# Altium schematic symbol library Library.SchLib: 119 symbols
Pins are listed as number, name and electrical type; pins without a type are passive.

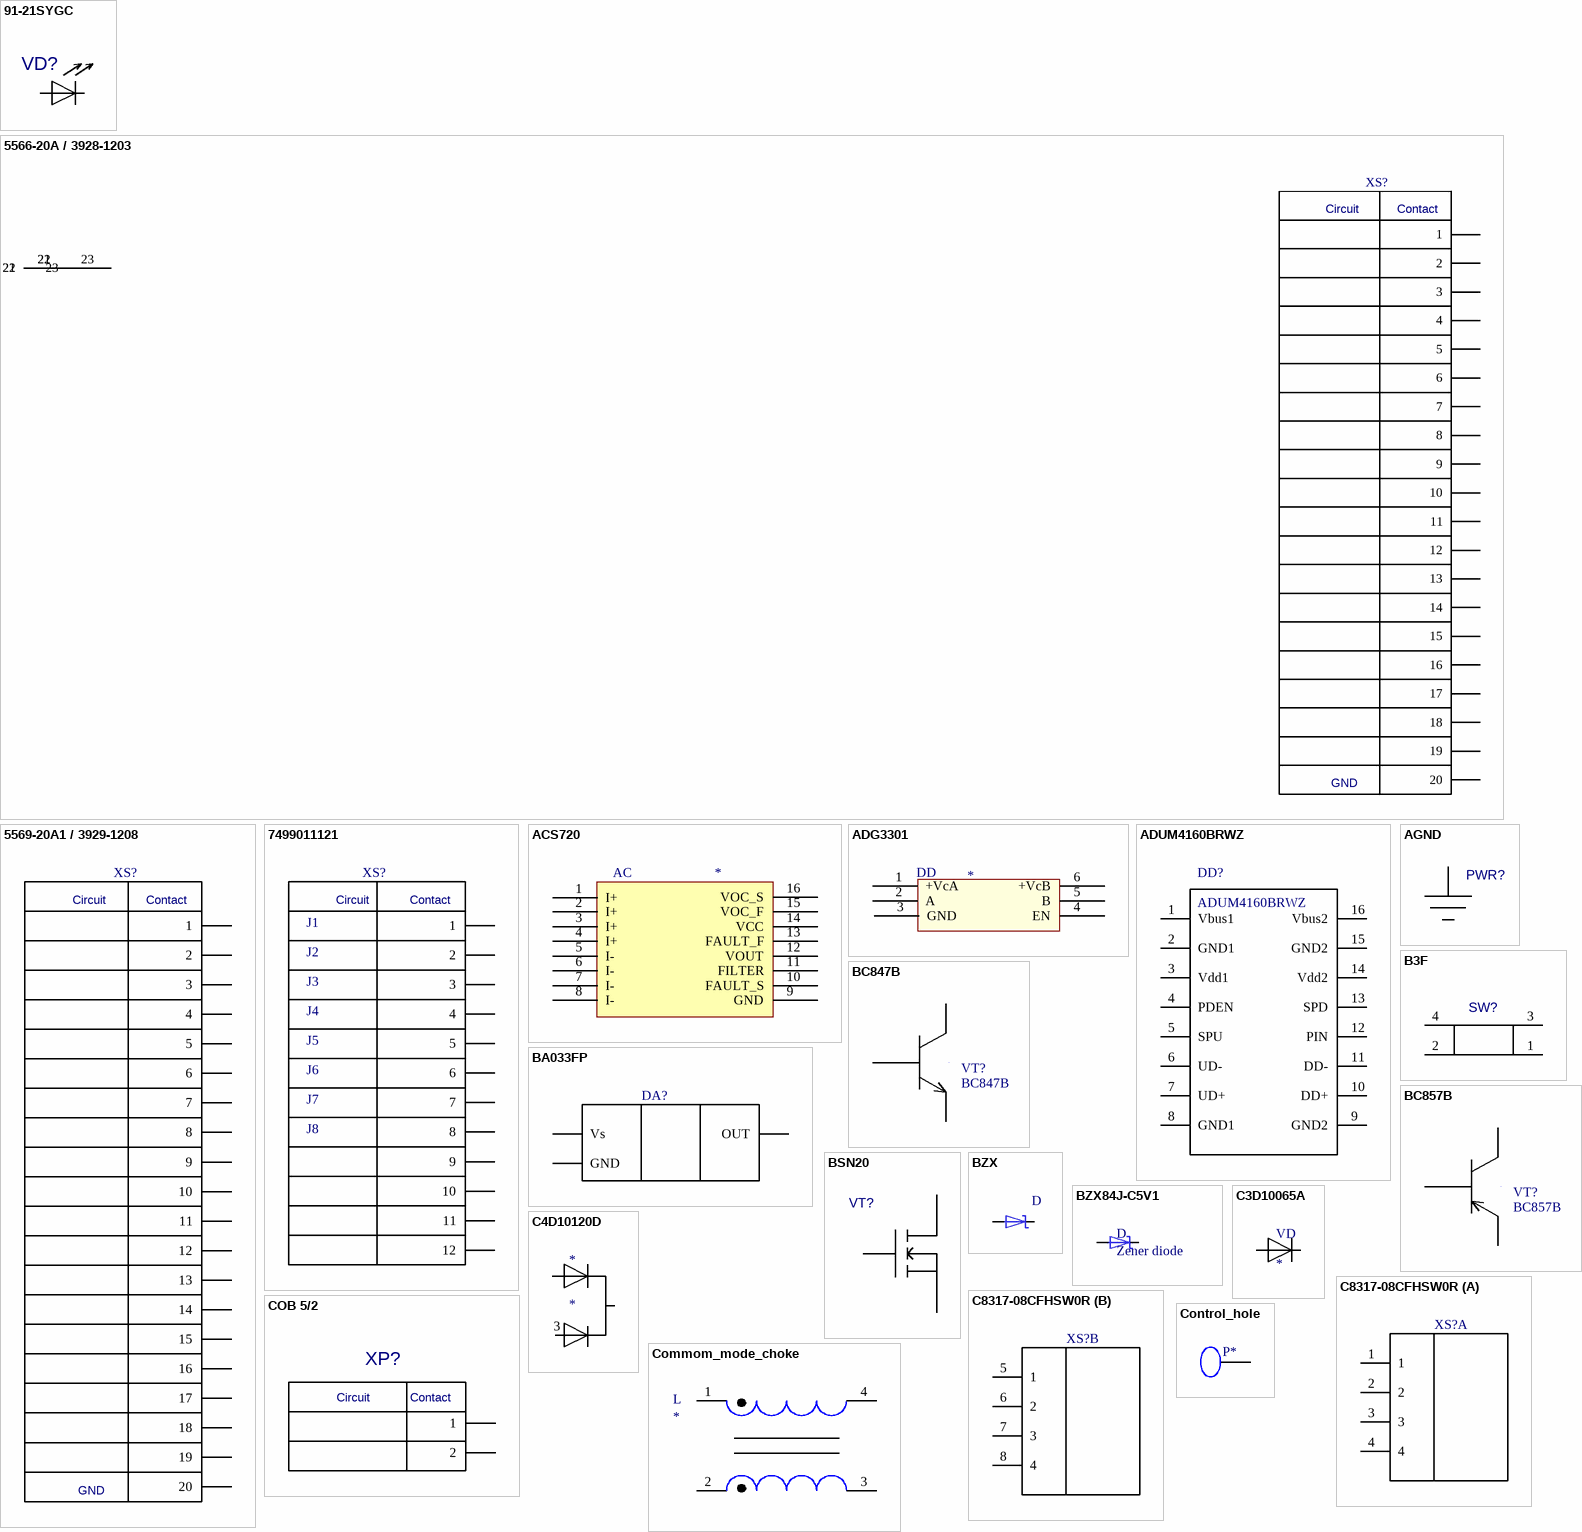
[diagram p0: symbols 91-21SYGC to Control_hole]

## 91-21SYGC
designator VD?  (value not drawn)
VD_SMD; Manufacture: Everlight Electronics; Value: LED green; Order code: 7525009; datasheet: https://www1.elfa.se/data1/wwwroot/assets/datasheets/07525009.pdf; Price: 0,15; Supplier: Elfa; Package: 0805; Publisher: *; Type: 91-21SYGC
footprint SMD_3MM
pins: 1, 2

## 5566-20A / 3928-1203
designator XS?  (value not drawn)
2x10P_ïðÿìîé; Manufacture: Harwin; Order code: 4391402; Supplier: Elfa; Price: 2,28; datasheet: https://www1.elfa.se/data1/wwwroot/assets/datasheets/04391400.pdf; Package: 10x1,27mm; Publisher: *; Value: *; Type: M50-3001045
footprint 2x10P_1.27
pins: 1, 2, 3, 4, 5, 6, 7, 8, 9, 10, 11, 12, 13, 14, 15, 16, 17, 18, 19, 20, 21, 22, 23
1 alternate drawing of the same symbol
text: Circuit; Contact; GND

## 5569-20A1 / 3929-1208
designator XS?  (value not drawn)
2x10P_óãëîâîé; Order code: 4402195; Supplier: Elfa; Price: 4,29; datasheet: https://www1.elfa.se/data1/wwwroot/assets/datasheets/04402170.pdf; Package: *; Publisher: *; Manufacture: *; Type: *; Value: *
footprint 2x10P yglovoj
pins: 1, 2, 3, 4, 5, 6, 7, 8, 9, 10, 11, 12, 13, 14, 15, 16, 17, 18, 19, 20
1 alternate drawing of the same symbol
text: Circuit; Contact; GND

## 7499011121
designator XS?  (value not drawn)
RJ45; Order code: 1636377; datasheet: http://katalog.we-online.de/pbs/datasheet/7499011121.pdf; Price: 7,87; Supplier: http://ee.farnell.com/wurth-elektronik/7499011121/connector-we-lan-integrated-rj/dp/1636377?Ntt=7499011121; Package: *; Publisher: *
footprint RJ45_2
pins: 1, 2, 3, 4, 5, 6, 7, 8, 9, 10, 11, 12
text: Circuit; Contact; J1; J2; J3; J4; J5; J6; J7; J8

## ACS720
designator AC
Value: 15A; Order code: 620-1876-1-ND; Supplier: Digi-key
footprint SOIC_W
pins: 1 I+, 2 I+, 3 I+, 4 I+, 5 I-, 6 I-, 7 I-, 8 I-, 9 GND, 10 FAULT_S, 11 FILTER, 12 VOUT, 13 FAULT_F, 14 VCC, 15 VOC_F, 16 VOC_S

## ADG3301
designator *, comment DD
pins: 1 +VcA, 2 A, 3 GND, 4 EN, 5 B, 6 +VcB

## ADUM4160BRWZ
designator DD?
Max Supply current: 8 mA; Supplier: http://www.analog.com/en/interface-isolation/digital-isolators/adum4160/products/product.html#product-samples-nav; Price: 4,53; datasheet: http://www.analog.com/static/imported-files/data_sheets/ADuM4160.pdf; Package: *; Publisher: *
footprint SOIC_W
pins: 1 Vbus1, 2 GND1, 3 Vdd1, 4 PDEN, 5 SPU, 6 UD-, 7 UD+, 8 GND1, 9 GND2, 10 DD+, 11 DD-, 12 PIN, 13 SPD, 14 Vdd2, 15 GND2, 16 Vbus2

## AGND
designator PWR?  (value not drawn)
Value: *
pins: 1 AGND (power)

## B3F
designator SW?, comment B3F-1000  (value not drawn)
BOTTON; Manufacture: Omron; Order code: 3559075; Value: *; datasheet: https://www1.elfa.se/data1/wwwroot/assets/datasheets/B3F_eng_datasheet.pdf; Price: 0,25; Supplier: Elfa; Package: *; Publisher: *; Type: B3F-1000
footprint B3F
pins: 1, 2, 3, 4

## BA033FP
designator DA?  (value not drawn)
conv5_3; Order code: 7330165; datasheet: https://www1.elfa.se/data1/wwwroot/assets/datasheets/hj645131-645135_dat_E.pdf; Price: 1,79; Supplier: https://www.elfa.se/elfa3~ee_ru/elfa/init.do?item=73-301-65&toc=19829&q=BA033FP++; Package: *; Publisher: *
footprint TO_252
pins: 1 Vs, 2 GND, 3 OUT

## BC847B
designator VT?
n-p-n; Order code: 7130131; datasheet: https://www1.elfa.se/data1/wwwroot/assets/datasheets/usBC846x-to-BC847x_e.pdf; Price: 0,091; Supplier: https://www.elfa.se/elfa3~ee_ru/elfa/init.do?item=71-301-31&toc=19104&q=BC847; Package: *; Publisher: *
footprint SOT23
pins: 1 B, 2 E (power), 3 C

## BC857B
designator VT?
p-n-p; Order code: 7130156; datasheet: https://www1.elfa.se/data1/wwwroot/assets/datasheets/vfBC856x-to-BC857x_e.pdf; Price: 0,112; Supplier: https://www.elfa.se/elfa3~ee_ru/elfa/init.do?item=71-301-56&toc=19104&q=BC+857; Package: *; Publisher: *
footprint SOT23
pins: 1 B, 2 E (power), 3 C

## BSN20
designator VT?  (value not drawn)
TR_SOT23; Manufacture: NXP; Value: 50V, 173mA; Order code: 7131733; datasheet: https://www1.elfa.se/data1/wwwroot/assets/datasheets/cd610530_e.pdf; Price: 0,24; Supplier: Elfa; Package: SOT-23; Publisher: *; Type: BSN20
footprint SOT23
pins: 1 G, 2 S, 3 D

## BZX
designator D  (value not drawn)
Manufacturer: NXP; Value: 18V; Order code: 70-187-40; Type: Zener Diod; Supplier: Elfa; Price: 0,13; Package: SOD-323F
footprint SOD323F
pins: 1, 2

## BZX84J-C5V1
designator D, comment Zener diode
Manufacturer: NXP; Value: 5.1V; Order code: 70-186-66; Type: BZX84J-C5V1; Package: sod323F; Supplier: Elfa; Price: 0.13
footprint SOD323F
pins: 1, 2

## C3D10065A
designator VD
Manufacturer: CREE; Value: 650V, 10A; Order code: 1864930; Type: Sic diode; Price: 5.77; Supplier: Farnell; Package: TO-220-2
footprint TO-220-2-mod
pins: 1, 2

## C4D10120D
designator *
Manufacturer: Cree; Value: 600V, 18A; Order code: 2361493; Package: TO-247-3; Price: 10,92; Publisher: *; Supplier: Farnell; Type: C4D10120D
footprint PG-TO-247-3
pins: 1, 2, 3

## C8317-08CFHSW0R
designator XS?, comment USB  (value not drawn)
Order code: 4270906; Supplier: https://www.elfa.se/elfa3~ee_ru/elfa/init.do?item=42-709-06&toc=0&q=C8317-08CFHSW0R; datasheet: https://www1.elfa.se/data1/wwwroot/assets/datasheets/04270906.pdf; Price: 1,59; Package: *; Publisher: *
footprint USB_A_dual
part A pins: 1, 2, 3, 4
part B pins: 5 1, 6 2, 7 3, 8 4

## COB 5/2
designator XP?  (value not drawn)
XP_24V; Order code: 4837746; Value: *; datasheet: https://www1.elfa.se/data1/wwwroot/assets/datasheets/04837746.pdf; Price: 0,52; Supplier: https://www.elfa.se/elfa3~ee_ru/elfa/init.do?item=48-377-46&toc=19604&q=48-377-46; Package: *; Publisher: *
footprint XP2
pins: 1, 2
text: Circuit; Contact

## Commom_mode_choke
designator L
Manufacturer: Würth Elektronik; Value: 20 mH 0.5 A; Order code: 15857854; Type: Common mode choke; Supplier: Elfa; Package: Trough_hole; Price: 4,54
footprint Common_mode
pins: 1, 2, 3, 4

## Control_hole
designator P*  (value not drawn)
footprint Control_hole
pins: 1

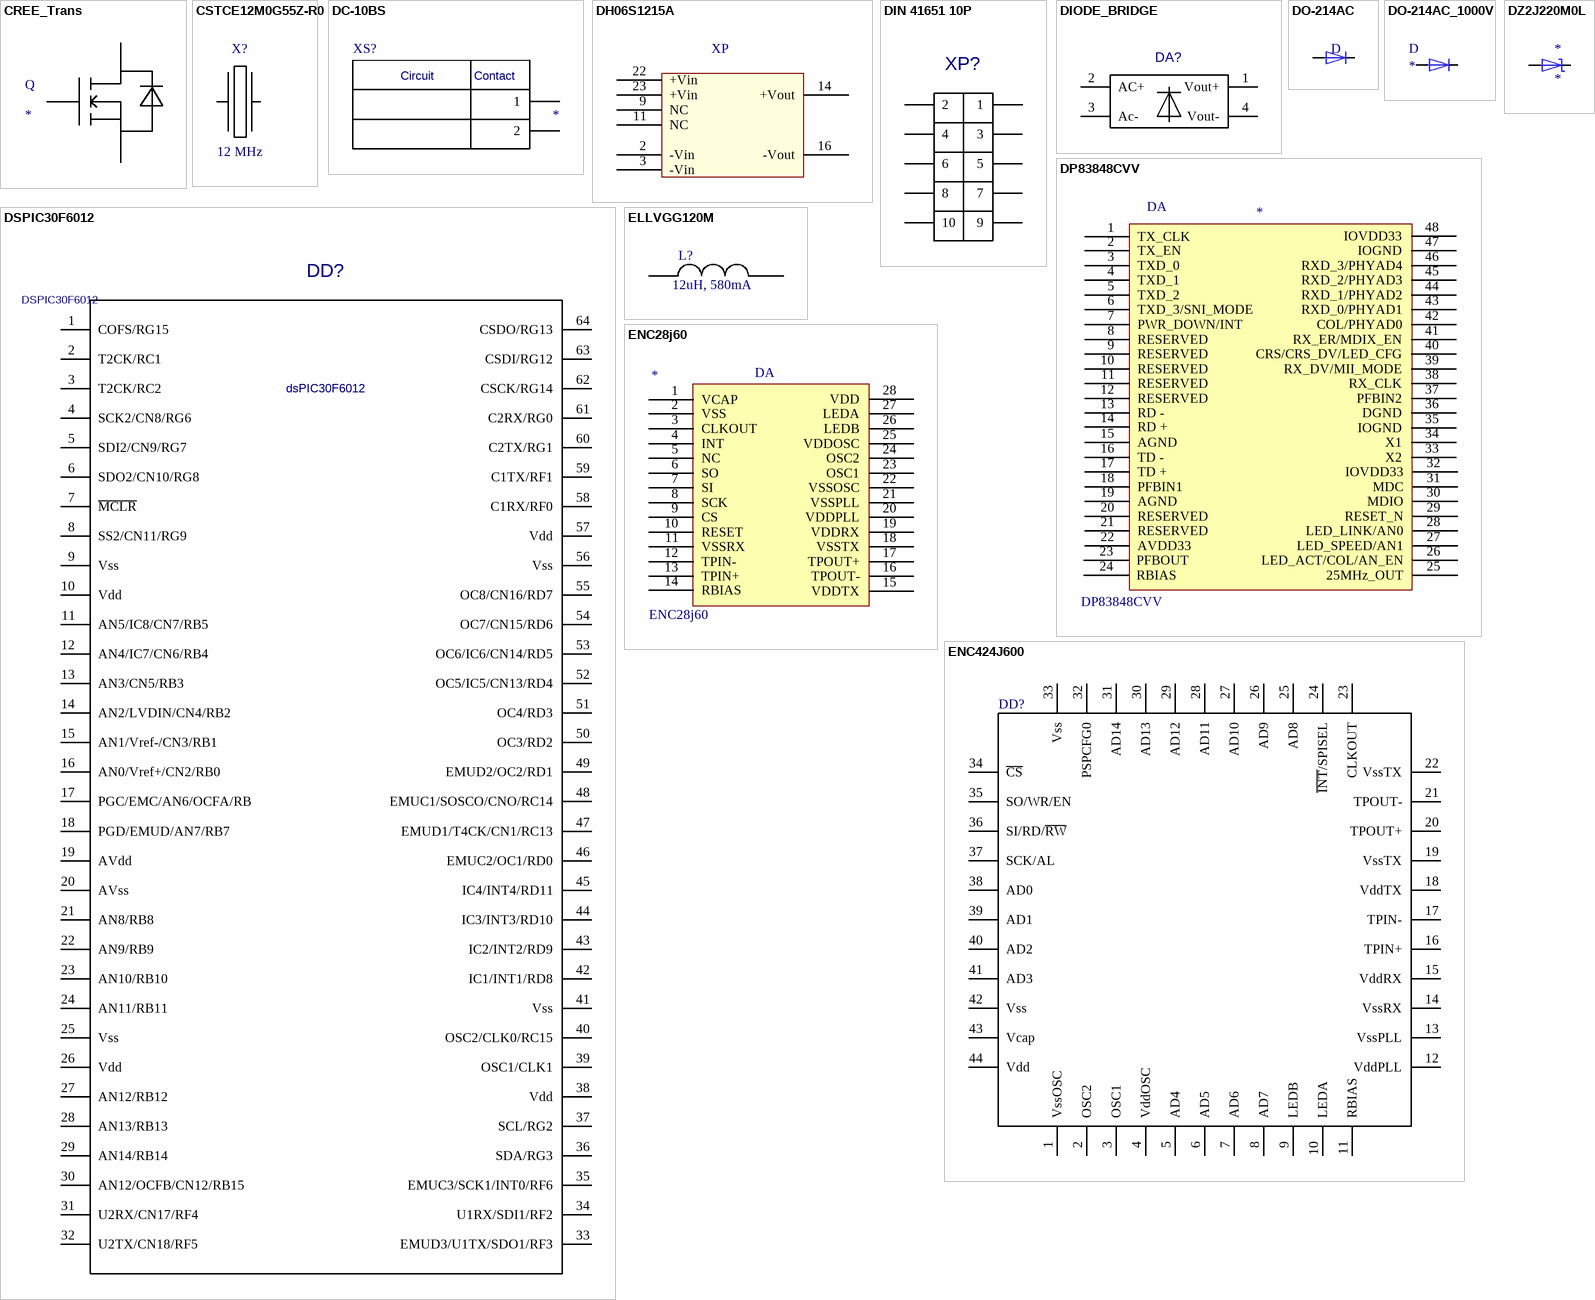
[diagram p1: symbols CREE_Trans to ENC424J600]

## CREE_Trans
designator Q
Value: 1200V, 31.6A, 80mOhm; Order code: 2361496; Type: SiC; Price: 15.6; Supplier: Farnel; Package: TO-247
footprint VT
pins: 1 G, 2 D, 3 S

## CSTCE12M0G55Z-R0
designator X?, comment 12 MHz
Manufacture: 74-623-32; Order code: 7462332; Value: 12MHz; datasheet: https://www1.elfa.se/data1/wwwroot/assets/datasheets/ceralock_eng_bro.pdf; Price: 1,74; Supplier: Elfa; Package: SMD; Publisher: *; Type: CSTCE12M0G55Z-R0
footprint CSTCE_G
pins: 1, 2

## DC-10BS
designator XS?
9-18V; Manufacture: Cliff; Order code: 4205876; Value: 12VDC, 2.5A; Supplier: Elfa; Price: 0,97; Package: 2.5mmX6.4mm; Publisher: *; Type: DC-10BS
footprint DC_10BS
pins: 1, 2
text: Circuit; Contact

## DH06S1215A
designator XP  (value not drawn)
Manufacturer: Delta-Europe; Value: 15V, 6W; Order code: 10-435-30; Type: DH06S1215A; Supplier: Elfa; Price: 16.7; Package: *
footprint DH06S
pins: 2 -Vin, 3 -Vin, 9 NC, 11 NC, 14 +Vout, 16 -Vout, 22 +Vin, 23 +Vin

## DIN 41651 10P
designator XP?  (value not drawn)
BLASTER_SLOT; Manufacture: Hsuan Mao; Order code: 4315503; Value: *; datasheet: https://www1.elfa.se/data1/wwwroot/assets/datasheets/04315503.pdf; Price: 0,52; Supplier: Elfa; Package: 10x2.54mm; Publisher: *; Type: C3510-10SPGB00R
footprint 2XP5
pins: 1, 2, 3, 4, 5, 6, 7, 8, 9, 10

## DIODE_BRIDGE
designator DA?  (value not drawn)
Value: *; Package: *; Price: *; Publisher: *; Supplier: *
footprint KBL_DIODE_BRIDGE
pins: 1 Vout+, 2 AC+, 3 Ac-, 4 Vout-

## DO-214AC
designator D, comment DO-214AC=SMA  (value not drawn)
Manufacturer: Diotec; Value: 100v, 1A; Order code: 70-008-44; Type: Fast diode; Price: 0,145; Supplier: Elfa; Package: DO-214
footprint DO-214AC (Molded Diode, 2-Leads, Body 4.5x2.7mm, IPC Medium Density)
pins: 1, 2

## DO-214AC_1000V
designator D
Manufacturer: Taiwan Semiconductor; Value: 1000V, 1A; Order code: 70-002-02; Type: DO-214AC; Price: 0.266; Package: smd; Supplier: Elfa
footprint DO-214AC (Molded Diode, 2-Leads, Body 4.5x2.7mm, IPC Medium Density)
pins: 1, 2

## DP83848CVV
designator DA  Type: DP83848CVV
Ethernet Phy Layer; Manufacture: Texas Instruments; Order code: 1286816; Package: LQFP-48; Price: 5.38; Publisher: *; Supplier: Farnell; Value: Ethernet Phy Layer
footprint LQFP-48
pins: 1 TX_CLK, 2 TX_EN, 3 TXD_0, 4 TXD_1, 5 TXD_2, 6 TXD_3/SNI_MODE, 7 PWR_DOWN/INT, 8 RESERVED, 9 RESERVED, 10 RESERVED, 11 RESERVED, 12 RESERVED, 13 RD -, 14 RD +, 15 AGND, 16 TD -, 17 TD +, 18 PFBIN1, 19 AGND, 20 RESERVED, 21 RESERVED, 22 AVDD33, 23 PFBOUT, 24 RBIAS, 25 25MHz_OUT, 26 LED_ACT/COL/AN_EN, 27 LED_SPEED/AN1, 28 LED_LINK/AN0, 29 RESET_N, 30 MDIO, 31 MDC, 32 IOVDD33, 33 X2, 34 X1, 35 IOGND, 36 DGND, 37 PFBIN2, 38 RX_CLK, 39 RX_DV/MII_MODE, 40 CRS/CRS_DV/LED_CFG, 41 RX_ER/MDIX_EN, 42 COL/PHYAD0, 43 RXD_0/PHYAD1, 44 RXD_1/PHYAD2, 45 RXD_2/PHYAD3, 46 RXD_3/PHYAD4, 47 IOGND, 48 IOVDD33

## DSPIC30F6012
designator DD?
Value: *; Package: *; Price: *; Publisher: *; Supplier: *
footprint TQFP64
pins: 1 COFS/RG15, 2 T2CK/RC1, 3 T2CK/RC2, 4 SCK2/CN8/RG6, 5 SDI2/CN9/RG7, 6 SDO2/CN10/RG8, 7 ~{MCLR}, 8 SS2/CN11/RG9, 9 Vss, 10 Vdd, 11 AN5/IC8/CN7/RB5, 12 AN4/IC7/CN6/RB4, 13 AN3/CN5/RB3, 14 AN2/LVDIN/CN4/RB2, 15 AN1/Vref-/CN3/RB1, 16 AN0/Vref+/CN2/RB0, 17 PGC/EMC/AN6/OCFA/RB, 18 PGD/EMUD/AN7/RB7, 19 AVdd, 20 AVss, 21 AN8/RB8, 22 AN9/RB9, 23 AN10/RB10, 24 AN11/RB11, 25 Vss, 26 Vdd, 27 AN12/RB12, 28 AN13/RB13, 29 AN14/RB14, 30 AN12/OCFB/CN12/RB15, 31 U2RX/CN17/RF4, 32 U2TX/CN18/RF5, 33 EMUD3/U1TX/SDO1/RF3, 34 U1RX/SDI1/RF2, 35 EMUC3/SCK1/INT0/RF6, 36 SDA/RG3, 37 SCL/RG2, 38 Vdd, 39 OSC1/CLK1, 40 OSC2/CLK0/RC15, 41 Vss, 42 IC1/INT1/RD8, 43 IC2/INT2/RD9, 44 IC3/INT3/RD10, 45 IC4/INT4/RD11, 46 EMUC2/OC1/RD0, 47 EMUD1/T4CK/CN1/RC13, 48 EMUC1/SOSCO/CNO/RC14, 49 EMUD2/OC2/RD1, 50 OC3/RD2, 51 OC4/RD3, 52 OC5/IC5/CN13/RD4, 53 OC6/IC6/CN14/RD5, 54 OC7/CN15/RD6, 55 OC8/CN16/RD7, 56 Vss, 57 Vdd, 58 C1RX/RF0, 59 C1TX/RF1, 60 C2TX/RG1, 61 C2RX/RG0, 62 CSCK/RG14, 63 CSDI/RG12, 64 CSDO/RG13
text: dsPIC30F6012

## DZ2J220M0L
designator *
Value: 22V, 200mW; Order code: 2285315; Type: Zener diode; Package: SOD323F; Supplier: Farnel; Price: 0.041
footprint SOD323F
pins: 1, 2

## ELLVGG120M
designator L?  value 12uH, 580mA  (hidden comment: *)
12uH; Manufacture: Panasonic; Order code: 5800668; Type: ELLVGG120M; Supplier: Elfa; datasheet: https://www1.elfa.se/data1/wwwroot/assets/datasheets/ELLV-series.pdfhttps://www1.elfa.se/data1/wwwroot/assets/datasheets/ELLV-series.pdf; Price: 0,36; Package: SMD 0806; Publisher: *
footprint L
pins: 1, 2

## ENC28j60
designator DA  Type: ENC28j60
Ethernet Controller; Manufacture: Microchip; Value: 10Mb Type; Order code: 1564401; Package: SOIC-28; Price: 3.25; Publisher: *; Supplier: Farnell
footprint SOIC_W28
pins: 1 VCAP, 2 VSS, 3 CLKOUT, 4 INT, 5 NC, 6 SO, 7 SI, 8 SCK, 9 CS, 10 RESET, 11 VSSRX, 12 TPIN-, 13 TPIN+, 14 RBIAS, 15 VDDTX, 16 TPOUT-, 17 TPOUT+, 18 VSSTX, 19 VDDRX, 20 VDDPLL, 21 VSSPLL, 22 VSSOSC, 23 OSC1, 24 OSC2, 25 VDDOSC, 26 LEDB, 27 LEDA, 28 VDD

## ENC424J600
designator DD?  (value not drawn)
Ethernet controller; Order code: 7387729; datasheet: https://www1.elfa.se/data1/wwwroot/assets/datasheets/ENC424J600_624J600_eng_tds.pdf; Price: 3,67; Supplier: https://www.elfa.se/elfa3~ee_ru/elfa/init.do?item=73-877-29&toc=20160&q=Ethernet+Controller; Package: *; Publisher: *
pins: 1 VssOSC, 2 OSC2, 3 OSC1, 4 VddOSC, 5 AD4, 6 AD5, 7 AD6, 8 AD7, 9 LEDB, 10 LEDA, 11 RBIAS, 12 VddPLL, 13 VssPLL, 14 VssRX, 15 VddRX, 16 TPIN+, 17 TPIN-, 18 VddTX, 19 VssTX, 20 TPOUT+, 21 TPOUT-, 22 VssTX, 23 CLKOUT, 24 ~{INT}/SPISEL, 25 AD8, 26 AD9, 27 AD10, 28 AD11, 29 AD12, 30 AD13, 31 AD14, 32 PSPCFG0, 33 Vss, 34 ~{CS}, 35 SO/WR/EN, 36 SI/RD/~{RW}, 37 SCK/AL, 38 AD0, 39 AD1, 40 AD2, 41 AD3, 42 Vss, 43 Vcap, 44 Vdd

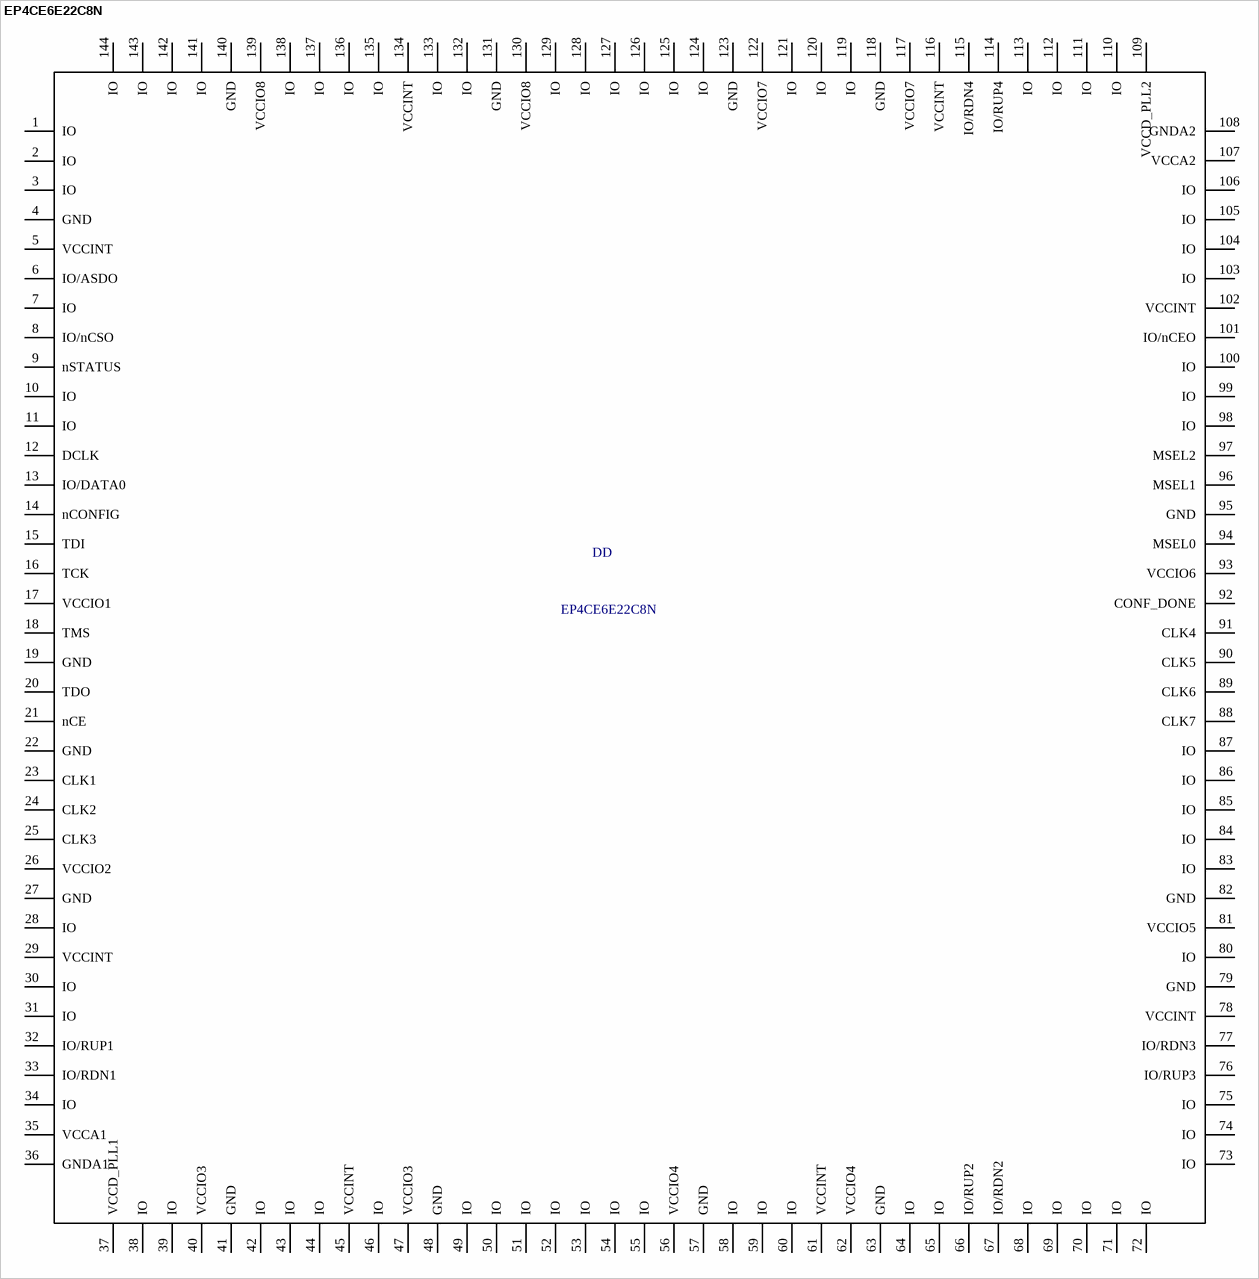
[diagram p2: symbol EP4CE6E22C8N]

## EP4CE6E22C8N
designator DD
Manufacturer: Altera; Order code: 2100851; Value: *; Type: EP4CE15E22C8N; Price: 17,04; Supplier: Farnel; Package: EQFP144
footprint EQFP-144
pins: 1 IO, 2 IO, 3 IO, 4 GND, 5 VCCINT, 6 IO/ASDO, 7 IO, 8 IO/nCSO, 9 nSTATUS, 10 IO, 11 IO, 12 DCLK, 13 IO/DATA0, 14 nCONFIG, 15 TDI, 16 TCK, 17 VCCIO1, 18 TMS, 19 GND, 20 TDO, 21 nCE, 22 GND, 23 CLK1, 24 CLK2, 25 CLK3, 26 VCCIO2, 27 GND, 28 IO, 29 VCCINT, 30 IO, 31 IO, 32 IO/RUP1, 33 IO/RDN1, 34 IO, 35 VCCA1, 36 GNDA1, 37 VCCD_PLL1, 38 IO, 39 IO, 40 VCCIO3, 41 GND, 42 IO, 43 IO, 44 IO, 45 VCCINT, 46 IO, 47 VCCIO3, 48 GND, 49 IO, 50 IO, 51 IO, 52 IO, 53 IO, 54 IO, 55 IO, 56 VCCIO4, 57 GND, 58 IO, 59 IO, 60 IO, 61 VCCINT, 62 VCCIO4, 63 GND, 64 IO, 65 IO, 66 IO/RUP2, 67 IO/RDN2, 68 IO, 69 IO, 70 IO, 71 IO, 72 IO, 73 IO, 74 IO, 75 IO, 76 IO/RUP3, 77 IO/RDN3, 78 VCCINT, 79 GND, 80 IO, 81 VCCIO5, 82 GND, 83 IO, 84 IO, 85 IO, 86 IO, 87 IO, 88 CLK7, 89 CLK6, 90 CLK5, 91 CLK4, 92 CONF_DONE, 93 VCCIO6, 94 MSEL0, 95 GND, 96 MSEL1, 97 MSEL2, 98 IO, 99 IO, 100 IO, 101 IO/nCEO, 102 VCCINT, 103 IO, 104 IO, 105 IO, 106 IO, 107 VCCA2, 108 GNDA2, 109 VCCD_PLL2, 110 IO, 111 IO, 112 IO, 113 IO, 114 IO/RUP4, 115 IO/RDN4, 116 VCCINT, 117 VCCIO7, 118 GND, 119 IO, 120 IO, 121 IO, 122 VCCIO7, 123 GND, 124 IO, 125 IO, 126 IO, 127 IO, 128 IO, 129 IO, 130 VCCIO8, 131 GND, 132 IO, 133 IO, 134 VCCINT, 135 IO, 136 IO, 137 IO, 138 IO, 139 VCCIO8, 140 GND, 141 IO, 142 IO, 143 IO, 144 IO

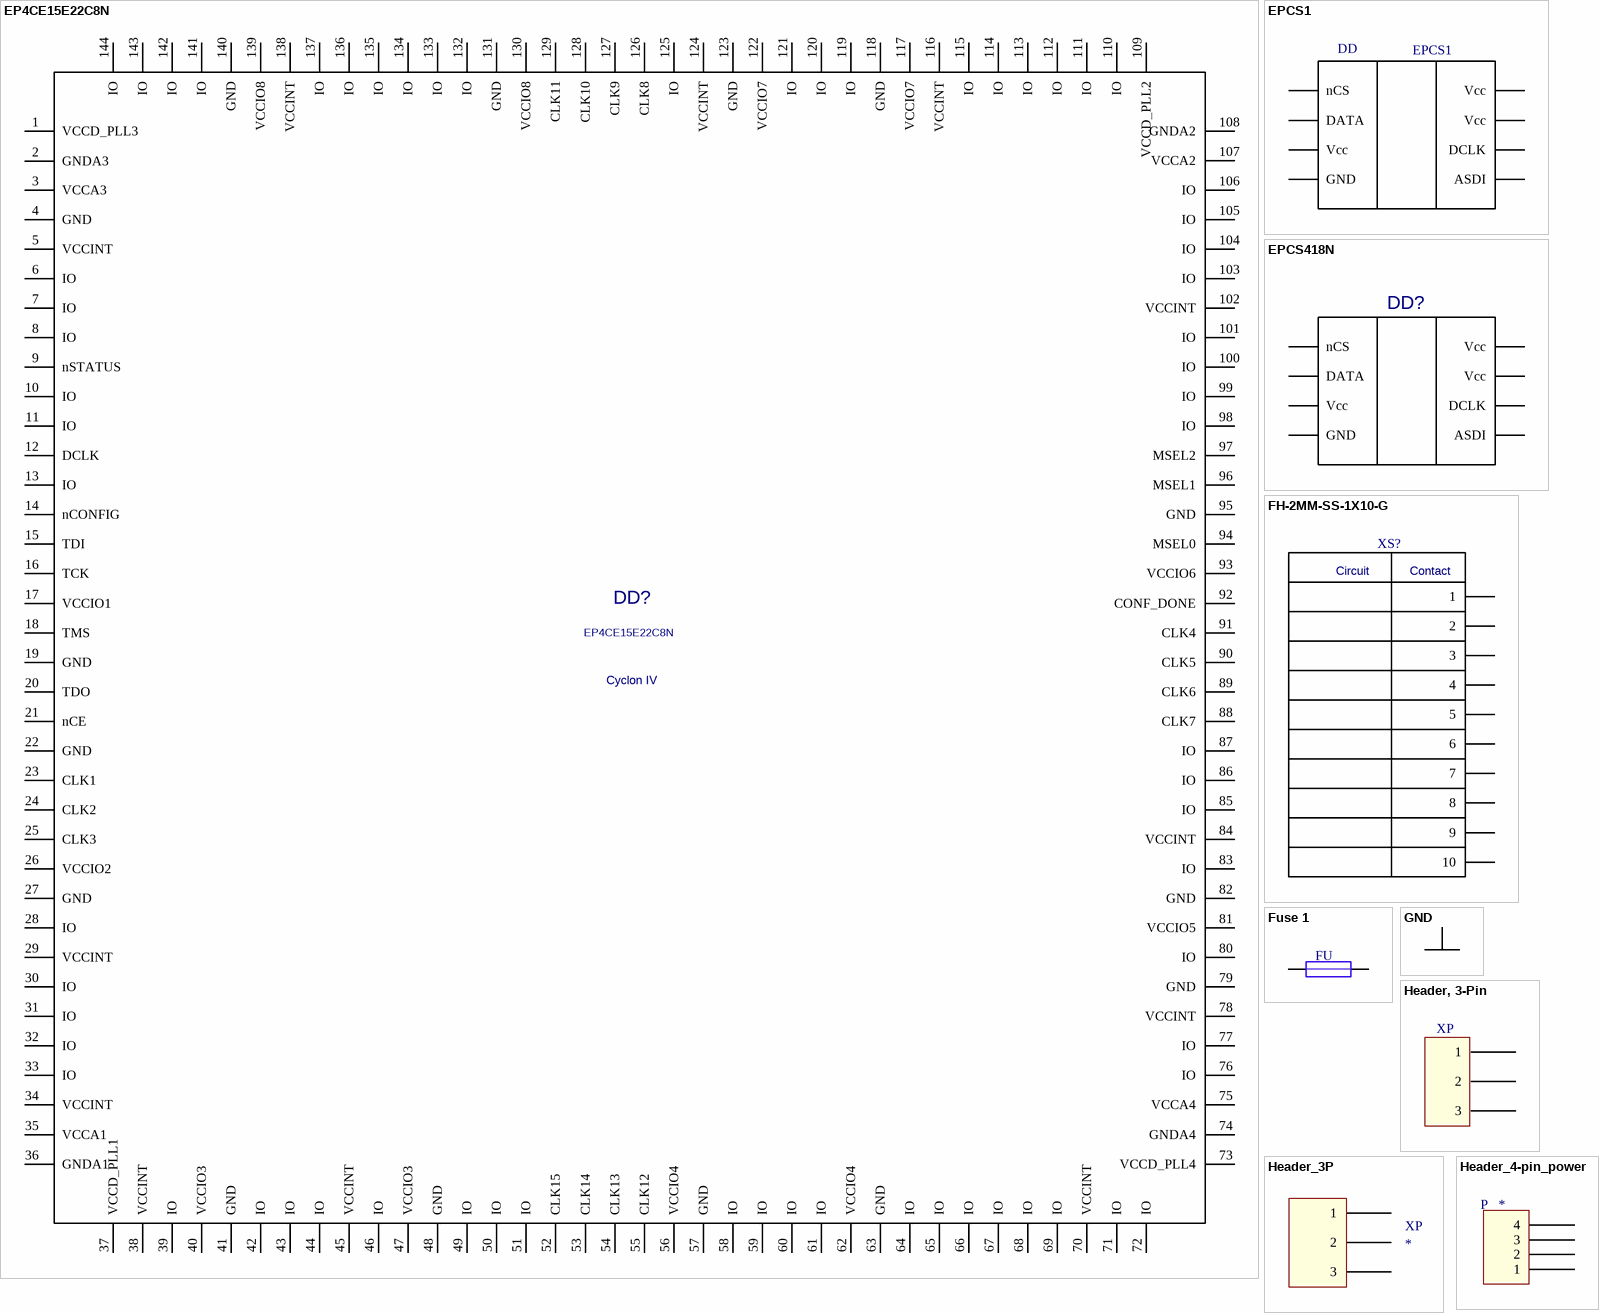
[diagram p3: symbols EP4CE15E22C8N to Header_4-pin_power]

## EP4CE15E22C8N
designator DD?
Cyclon4; Manufacture: Altera; Order code: 2100828; Value: *; datasheet: http://www.altera.com/literature/hb/cyclone-iv/cyiv-51001.pdf; Price: 31,82; Supplier: Farnell; Package: EQFP144; Publisher: *; Type: EP4CE15E22C8N
footprint EQFP-144
pins: 1 VCCD_PLL3, 2 GNDA3, 3 VCCA3, 4 GND, 5 VCCINT, 6 IO, 7 IO, 8 IO, 9 nSTATUS, 10 IO, 11 IO, 12 DCLK, 13 IO, 14 nCONFIG, 15 TDI, 16 TCK, 17 VCCIO1, 18 TMS, 19 GND, 20 TDO, 21 nCE, 22 GND, 23 CLK1, 24 CLK2, 25 CLK3, 26 VCCIO2, 27 GND, 28 IO, 29 VCCINT, 30 IO, 31 IO, 32 IO, 33 IO, 34 VCCINT, 35 VCCA1, 36 GNDA1, 37 VCCD_PLL1, 38 VCCINT, 39 IO, 40 VCCIO3, 41 GND, 42 IO, 43 IO, 44 IO, 45 VCCINT, 46 IO, 47 VCCIO3, 48 GND, 49 IO, 50 IO, 51 IO, 52 CLK15, 53 CLK14, 54 CLK13, 55 CLK12, 56 VCCIO4, 57 GND, 58 IO, 59 IO, 60 IO, 61 IO, 62 VCCIO4, 63 GND, 64 IO, 65 IO, 66 IO, 67 IO, 68 IO, 69 IO, 70 VCCINT, 71 IO, 72 IO, 73 VCCD_PLL4, 74 GNDA4, 75 VCCA4, 76 IO, 77 IO, 78 VCCINT, 79 GND, 80 IO, 81 VCCIO5, 82 GND, 83 IO, 84 VCCINT, 85 IO, 86 IO, 87 IO, 88 CLK7, 89 CLK6, 90 CLK5, 91 CLK4, 92 CONF_DONE, 93 VCCIO6, 94 MSEL0, 95 GND, 96 MSEL1, 97 MSEL2, 98 IO, 99 IO, 100 IO, 101 IO, 102 VCCINT, 103 IO, 104 IO, 105 IO, 106 IO, 107 VCCA2, 108 GNDA2, 109 VCCD_PLL2, 110 IO, 111 IO, 112 IO, 113 IO, 114 IO, 115 IO, 116 VCCINT, 117 VCCIO7, 118 GND, 119 IO, 120 IO, 121 IO, 122 VCCIO7, 123 GND, 124 VCCINT, 125 IO, 126 CLK8, 127 CLK9, 128 CLK10, 129 CLK11, 130 VCCIO8, 131 GND, 132 IO, 133 IO, 134 IO, 135 IO, 136 IO, 137 IO, 138 VCCINT, 139 VCCIO8, 140 GND, 141 IO, 142 IO, 143 IO, 144 IO
text: Cyclon IV

## EPCS1
designator DD
Manufacture: Altera; Value: 1Mb; Order code: 1453504; Type: EPCS1SI8N; Supplier: Farnel; Package: SOIC8; Price: 4,46
footprint SOIC_8
pins: 1 nCS, 2 DATA, 3 Vcc, 4 GND, 5 ASDI, 6 DCLK, 7 Vcc, 8 Vcc

## EPCS418N
designator DD?  (value not drawn)
Manufacture: Altera; Max Supply current: 50 uA; Order code: 1453496; Value: *; datasheet: http://www.altera.com/literature/hb/cfg/cyc_c51014.pdf; Price: 15,85; Supplier: Farnell; Package: SOIC-8; Publisher: *; Type: EPCS418N
footprint SOIC_8
pins: 1 nCS, 2 DATA, 3 Vcc, 4 GND, 5 ASDI, 6 DCLK, 7 Vcc, 8 Vcc

## FH-2MM-SS-1X10-G
designator XS?  (value not drawn)
1x10P; Order code: 4380655; Price: 2,93; Supplier: https://www.elfa.se/elfa3~ee_ru/elfa/init.do?item=43-806-55&toc=19754&q=1x10p; datasheet: https://www1.elfa.se/data1/wwwroot/assets/datasheets/04380606.pdf; Package: *; Publisher: *
footprint 1x10P
pins: 1, 2, 3, 4, 5, 6, 7, 8, 9, 10
text: Circuit; Contact

## Fuse 1
designator FU  (value not drawn)
Manufacturer: Schurter; Value: Fuse 5x20; Order code: 33-173-75, 33-160-31, 33-161-63; Type: 16A; Price: 0,48; 0,54; 0,45; Supplier: Elfa; Package: Fuse 5x20
footprint Fuse5x20mm
pins: 1, 2

## GND
designator PWR?  (value not drawn)
GND; Value: *

## Header, 3-Pin
designator XP  (value not drawn)
Manufacturer: TE Connectivity; Order code: 43-791-86; Type: Header 3-Pin; Value: *; Package: 3x2.54; Supplier: Elfa; Price: 0,52
footprint 3_HOLES
pins: 1, 2, 3

## Header_3P
designator XP
Manufacturer: Altium Limited; Value: PCB Terminal Block 3P7.62 mm; Order code: 48-397-10; Type: MB322-762M03; Price: *; Supplier: Elfa; Package: *
footprint Header_3P
pins: 1, 2, 3

## Header_4-pin_power
designator P
Manufacturer: Phoenix Contact; Order code: 48-455-17, 48-455-58; Type: PC 4/ 4-ST-7,62; Value: *; Price: 4,27+6,28; Package: 4-ST-7,62; Supplier: Elfa
footprint PC 4/ 2-G-7,62 (2pin pistik plaadile)
pins: 1, 2, 3, 4

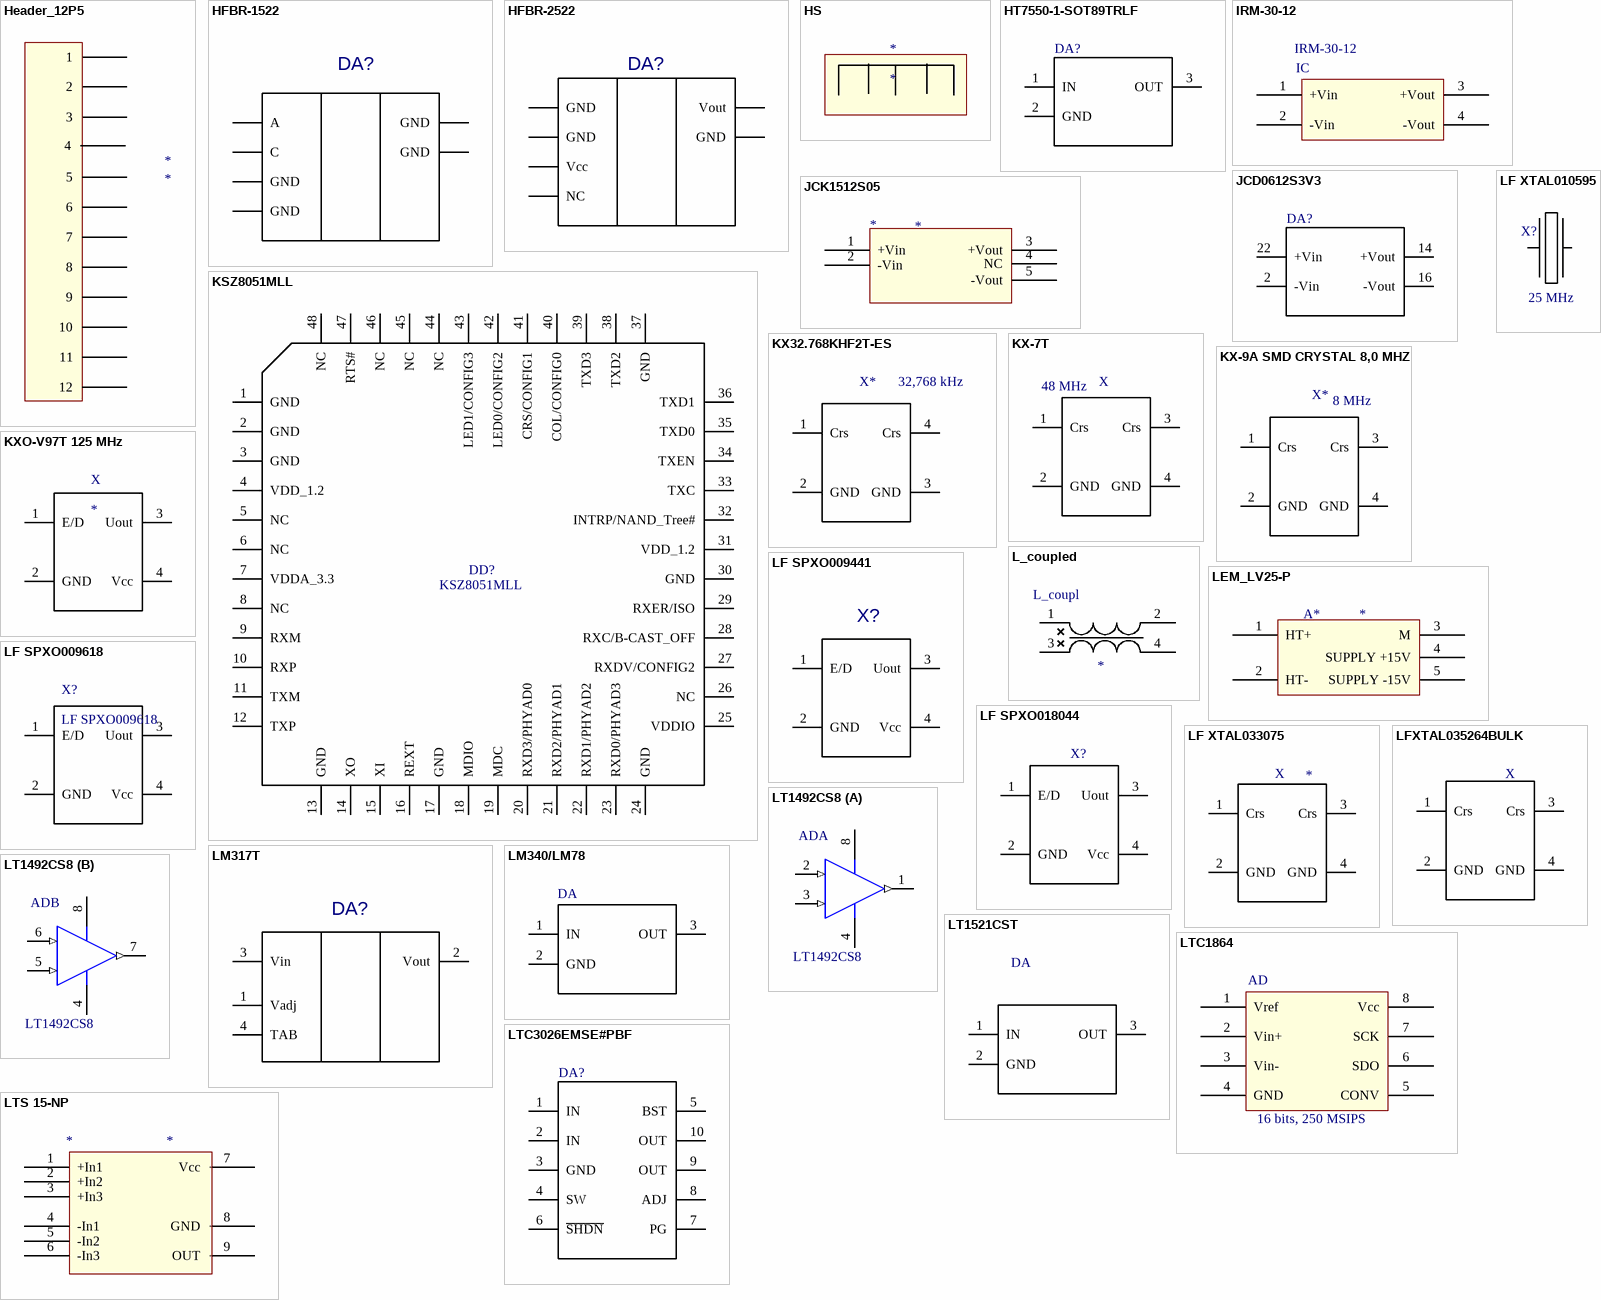
[diagram p4: symbols Header_12P5 to LTS 15-NP]

## Header_12P5
designator *
Manufacturer: Wago; Value: 400 VAC/DC; Order code: 48-409-77; Price: 3,65; Supplier: Elfa; Type: Terminal Block 12P5 mm; Package: 12P5
footprint Header_12P5
pins: 1, 2, 3, 4, 5, 6, 7, 8, 9, 10, 11, 12

## HFBR-1522
designator DA?  (value not drawn)
OPT_TRN; Manufacture: Avago; Value: 5V, 48,9 mA; Order code: 4690710; Max Supply current: 48,9 mA; datasheet: https://www1.elfa.se/data1/wwwroot/assets/datasheets/jrAVAGO-HFBRx5xx_e.pdf; Price: 11,4; Supplier: Elfa; Package: 23X13X12 mm; Type: HFBR-1522
footprint OPT_TRN-RCV
pins: 1 A, 2 C, 3 GND, 4 GND, 5 GND, 6 GND

## HFBR-2522
designator DA?  (value not drawn)
OPT_RCV; Manufacture: Avago; Value: 2,5 mA; Order code: 4690714; datasheet: https://www1.elfa.se/data1/wwwroot/assets/datasheets/jrAVAGO-HFBRx5xx_e.pdf; Price: 10,7; Supplier: Elfa; Max Supply current: 2,5 mA; Package: 23X13X12 mm; Type: HFBR-2522
footprint OPT_TRN-RCV
pins: 1 Vout, 2 GND, 3 Vcc, 4 NC, 5 GND, 6 GND

## HS
designator *
Order code: 000000; Value: *; Type: *; Price: *; Supplier: *
footprint HS

## HT7550-1-SOT89TRLF
designator DA?  (value not drawn)
In 4-24V, Out 5V 0,1A; Manufacture: HOLTEK; Order code: 1420876; datasheet: http://www.farnell.com/datasheets/79206.pdf; Supplier: Farnell; Price: 0,7; Package: SOT89; Publisher: *; Type: HT7550-1-SOT89TRLF; Value: In 4-24V, Out 5V 0,1A
footprint SOT89
pins: 1 IN, 2 GND, 3 OUT

## IRM-30-12
designator IRM-30-12, comment IC
footprint IRM-30-12
pins: 1 +Vin, 2 -Vin, 3 +Vout, 4 -Vout

## JCD0612S3V3
designator DA?  (value not drawn)
in 9-18V, out 3.3V 1,4A; Manufacture: XP POWER; Order code: 2065283; datasheet: http://www.farnell.com/datasheets/1496329.pdf; Supplier: Farnell; Price: 20,15; Package: JCD; Publisher: *; Type: JCD0612S3V3; Value: in 9-18V, out 3.3V 1,4A
footprint JCD
pins: 2 -Vin, 3 -Vin hidden, 9 NC hidden to GND, 11 NC hidden to GND, 14 +Vout, 16 -Vout, 22 +Vin, 23 +Vin hidden

## JCK1512S05
designator *
footprint JCK1512S05
pins: 1 +Vin, 2 -Vin, 3 +Vout, 4 NC, 5 -Vout

## KSZ8051MLL
designator DD?
PHY; Max Supply current: 48,9 mA; Supplier: http://ee.farnell.com/micrel-semiconductor/ksz8051mll/txrx-phy-10-100-mii-3-3v-48lqfp/dp/1961898; Price: 1,22; datasheet: http://www.farnell.com/datasheets/1508786.pdf; Order code: *; Package: *; Publisher: *
footprint LQFP-48
pins: 1 GND, 2 GND, 3 GND, 4 VDD_1.2, 5 NC, 6 NC, 7 VDDA_3.3, 8 NC, 9 RXM, 10 RXP, 11 TXM, 12 TXP, 13 GND, 14 XO, 15 XI, 16 REXT, 17 GND, 18 MDIO, 19 MDC, 20 RXD3/PHYAD0, 21 RXD2/PHYAD1, 22 RXD1/PHYAD2, 23 RXD0/PHYAD3, 24 GND, 25 VDDIO, 26 NC, 27 RXDV/CONFIG2, 28 RXC/B-CAST_OFF, 29 RXER/ISO, 30 GND, 31 VDD_1.2, 32 INTRP/NAND_Tree#, 33 TXC, 34 TXEN, 35 TXD0, 36 TXD1, 37 GND, 38 TXD2, 39 TXD3, 40 COL/CONFIG0, 41 CRS/CONFIG1, 42 LED0/CONFIG2, 43 LED1/CONFIG3, 44 NC, 45 NC, 46 NC, 47 RTS#, 48 NC

## KX32.768KHF2T-ES
designator X*  value 32,768 kHz  (hidden comment: *)
Manufacturer: Kingstate; Order code: 74-641-00; Type: oscillator; Price: 1.55; Supplier: Elfa; Package: smd KXO
footprint KXO
pins: 1 Crs, 2 GND, 3 GND, 4 Crs

## KX-7T
designator X  value 48 MHz
48 MHz; Manufacturer: Geyer Electronic; Order code: 74-526-79; Type: KX-7T; Price: 6.63; Supplier: Elfa; Package: KX SMD
footprint KX
pins: 1 Crs, 2 GND, 3 Crs, 4 GND

## KX-9A SMD CRYSTAL 8,0 MHZ
designator X*  value 8 MHz  (hidden comment: *)
Manufacturer: Geyer Electronic; Order code: 74-536-76; Type: *; Price: 6.88; Supplier: Elfa; Package: smd KXO
footprint KXO
pins: 1 Crs, 2 GND, 3 Crs, 4 GND

## KXO-V97T 125 MHz
designator X
125 MHz; Manufacturer: Geyer Electronic; Value: 125 MHz, 3.3V; Order code: 10-444-44; Package: SMD KXO; Type: KXO-V97T; Price: 4.77; Supplier: Elfa
footprint KXO
pins: 1 E/D, 2 GND, 3 Uout, 4 Vcc

## L_coupled
designator L_coupl
Package: *; Price: *; Publisher: *; Supplier: *
pins: 1, 2, 3, 4

## LEM_LV25-P
designator A*
Manufacturer: Lem; Value: 0..500V; Order code: 76-965-03; Type: LV 25-P; Price: 60.6; Package: *; Supplier: Elfa
footprint VOLTAGE_LEM
pins: 1 HT+, 2 HT-, 3 M, 4 SUPPLY +15V, 5 SUPPLY -15V

## LF SPXO009441
designator X?  (value not drawn)
80 MHZ; Manufacturer: IQD; Value: 80 MHZ; Order code: 7459654; datasheet: https://www1.elfa.se/data1/wwwroot/assets/datasheets/07459001.pdf; Price: 8,57; Supplier: Elfa; Package: SMD; Publisher: *; Type: LF SPXO009441
footprint CFPS
pins: 1 E/D, 2 GND, 3 Uout, 4 Vcc

## LF SPXO009618
designator X?
125 MHz; Manufacture: IQD; Order code: 7457542; Value: 125 MHz, 2.5V; datasheet: https://www1.elfa.se/data1/wwwroot/assets/datasheets/07459001.pdf; Price: 11,3; Supplier: Elfa; Package: SMD; Publisher: *; Type: LF SPXO009618
footprint CFPS
pins: 1 E/D, 2 GND, 3 Uout, 4 Vcc

## LF SPXO018044
designator X?  (value not drawn)
Manufacturer: IQD; Value: 50 MHz; Order code: 74-596-21; Type: CFPS-73; Price: 6.49; Supplier: Elfa; Package: 7 x 5 x 1.4 mm
footprint CFPS
pins: 1 E/D, 2 GND, 3 Uout, 4 Vcc

## LF XTAL010595
designator X?, comment 25 MHz
Order code: 7452196; Value: 25MHz; datasheet: https://www1.elfa.se/data1/wwwroot/assets/datasheets/hc49-4hsmx_eng_tds.pdf; Supplier: Elfa; Price: 0,71; Package: smd; Publisher: *; Type: LF XTAL010595; Manufacture: *
footprint HC49_SMD
pins: 1, 2

## LF XTAL033075
designator X
25 MHz; Manufacture: IQD; Value: 25 MHz; Order code: 74-572-78; Type: LF XTAL033075; Price: 3.04; Package: CFPX; Supplier: Elfa
footprint CFPX
pins: 1 Crs, 2 GND, 3 Crs, 4 GND

## LFXTAL035264BULK
designator X, comment Oscillator  (value not drawn)
Manufacture: IQD; Value: 16 MHz; Order code: 74-519-01; Type: Oscillator; Supplier: Elfa; Package: CFPX-180; Price: 1,79
footprint CFPX
pins: 1 Crs, 2 GND, 3 Crs, 4 GND

## LM317T
designator DA?  (value not drawn)
CONV1.2_37; Order code: 7312077; Value: *; Supplier: https://www.elfa.se/elfa3~ee_ru/elfa/init.do?item=73-120-77&toc=19820&q=73-120-77++; datasheet: https://www1.elfa.se/data1/wwwroot/assets/datasheets/tnSTM-LM317_data_en.pdf; Price: 1,3; Package: *; Publisher: *
footprint TO_220
pins: 1 Vadj, 2 Vout, 3 Vin, 4 TAB

## LM340/LM78
designator DA  (value not drawn)
Manufacturer: National Semiconductor; Value: 5 V, 1A; Order code: 73-288-91; Type: LDO 7,5-20 V; Price: 1,5; Supplier: Elfa; Package: SOT-223
footprint SOT223
pins: 1 IN, 2 GND, 3 OUT

## LT1492CS8
designator AD
Manufacturer: Linear Technology; Value: OpAmp; Order code: 73-070-98; Supplier: Elfa; Price: 8.24; Package: SO8; Type: LT1492CS8
footprint SOIC_8
pins on every part: 4 GND (power), 8 Va (power)
part A pins: 1 OUTA (out), 2 INA- (in), 3 INA+ (in)
part B pins: 5 INB+ (in), 6 INB- (in), 7 OUTB (out)

## LT1521CST
designator DA  (value not drawn)
Manufacture: Linear Technology; Value: 3.3V, 0,3A; Order code: 73-071-06; Type: LDO 8-20V; Supplier: Elfa; Price: 5,84; Package: SOT-223
footprint SOT223
pins: 1 IN, 2 GND, 3 OUT

## LTC1864
designator AD  value 16 bits, 250 MSIPS  (hidden comment: *)
Manufacturer: Linear Technology; Order code: 73-072-22; Type: ADC; Package: SO-8; Price: 12.6; Supplier: Elfa
footprint SOIC_8
pins: 1 Vref, 2 Vin+, 3 Vin-, 4 GND, 5 CONV, 6 SDO, 7 SCK, 8 Vcc

## LTC3026EMSE#PBF
designator DA?  (value not drawn)
IN 1.14-5.5V Out 0.4-2.6V 1.5A; Manufacture: LINEAR TECHNOLOGY; Order code: 1663706; datasheet: http://www.farnell.com/datasheets/85272.pdf; Supplier: Farnell; Price: 4,63; Package: MSOP; Publisher: *; Type: LTC3026EMSE3PBF; Value: IN 1.14-5.5V Out 0.4-2.6V 1.5A
footprint MSOP
pins: 1 IN, 2 IN, 3 GND, 4 SW, 5 BST, 6 ~{SHDN}, 7 PG, 8 ADJ, 9 OUT, 10 OUT

## LTS 15-NP
designator *
Manufacturer: LEM; Order code: 76-963-13; Value: LTS 15-NP; Type: *; Supplier: Elfa; Package: *; Price: 18.5
footprint CURRENT_LEM
pins: 1 +In1, 2 +In2, 3 +In3, 4 -In1, 5 -In2, 6 -In3, 7 Vcc, 8 GND, 9 OUT

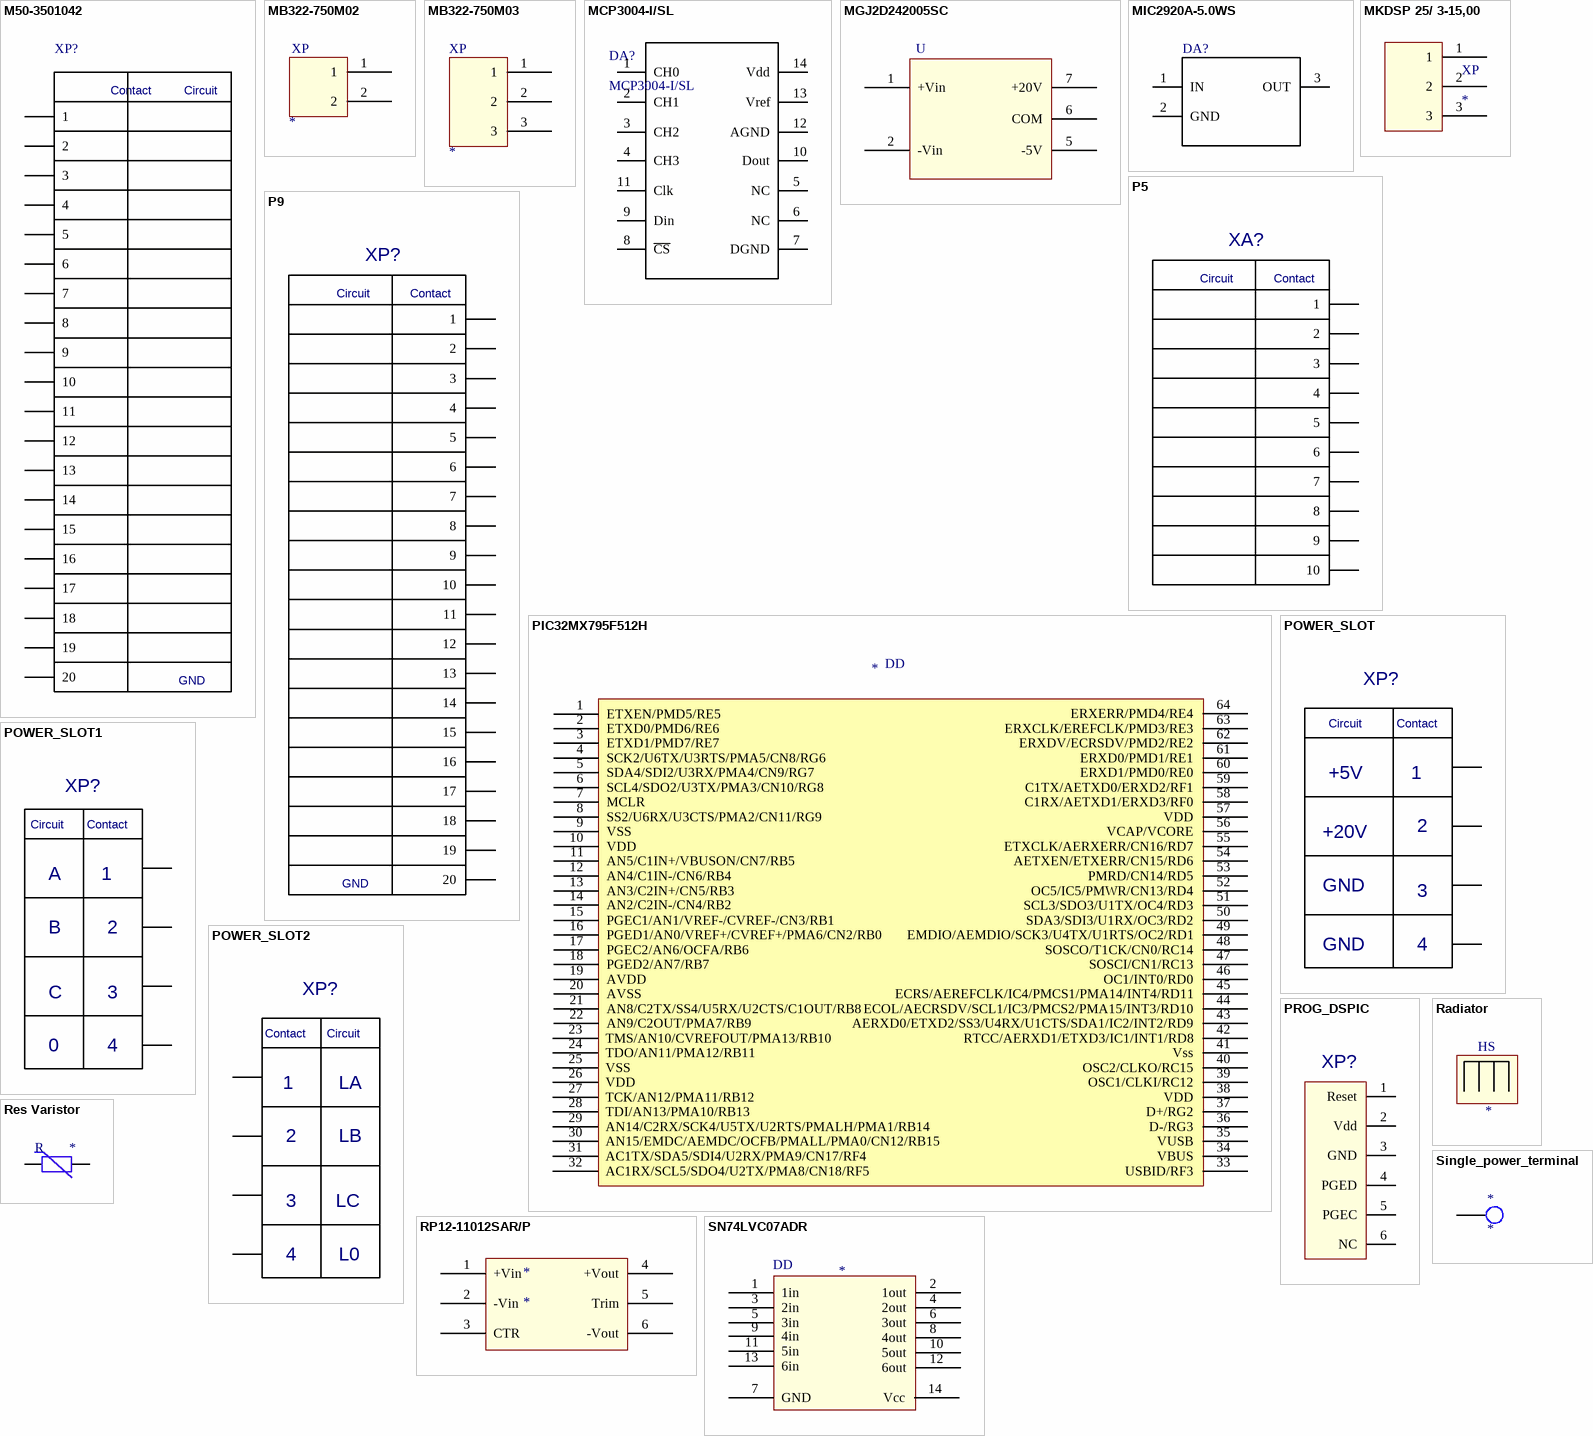
[diagram p5: symbols M50-3501042 to SN74LVC07ADR]

## M50-3501042
designator XP?  (value not drawn)
2x10P_PAPA; Order code: 4391414; Supplier: https://www.elfa.se/elfa3~ee_ru/elfa/init.do?item=43-914-14&toc=0&q=2x10P; Price: 1,93; datasheet: https://www1.elfa.se/data1/wwwroot/assets/datasheets/04391412.pdf; Package: *; Publisher: *
footprint 2x10P_1.27
footprint 2x10P_1.27 - PAPA
pins: 1, 2, 3, 4, 5, 6, 7, 8, 9, 10, 11, 12, 13, 14, 15, 16, 17, 18, 19, 20
1 alternate drawing of the same symbol
text: Contact; Circuit; GND

## MB322-750M02
designator XP
Value: 2 poles, 16A, 750V; Order code: 48-397-07; Type: MB322-750M02; Manufacturer: *; Supplier: Elfa; Package: 7.5 mm; Price: 0.43
footprint 2_HOLES_7.5
pins: 1, 2

## MB322-750M03
designator XP
Manufacturer: Deca; Value: 3 pole, 750V, 16A; Order code: 48-397-08; Type: MB322-750M03; Price: 0.67; Supplier: Elfa; Package: 7.5 mm
footprint 3_HOLES_7.5
pins: 1, 2, 3

## MCP3004-I/SL
designator DA?
ADC; Manufacture: MICROCHIP; Max Supply current: 550 uA; Order code: 1852016; Value: 10 bit, 4 chanel ADC; Supplier: Farnell; Price: 2,59; datasheet: http://ww1.microchip.com/downloads/en/DeviceDoc/21295d.pdf; Package: SOIC-14; Publisher: *; Type: MCP3004-I/SL
footprint SOIC-14N
pins: 1 CH0, 2 CH1, 3 CH2, 4 CH3, 5 NC, 6 NC, 7 DGND, 8 ~{CS}, 9 Din, 10 Dout, 11 Clk, 12 AGND, 13 Vref, 14 Vdd

## MGJ2D242005SC
designator U  (value not drawn)
Value: 2W; Order code: 2420071; Type: 12V/20V/-5V; Supplier: Farnell; Package: 7dip; Price: 7.49
footprint MGJ2
pins: 1 +Vin, 2 -Vin, 5 -5V, 6 COM, 7 +20V

## MIC2920A-5.0WS
designator DA?  (value not drawn)
In 4.3-26V, out 5V 0,4A; Manufacture: MICREL SEMICONDUCTOR; Order code: 1556707; datasheet: http://www.farnell.com/datasheets/29436.pdf; Supplier: Farnell; Price: 2,31; Package: SOT223; Publisher: *; Type: MIC2920A-5.0WS; Value: In 4.3-26V, out 5V 0,4A
footprint SOT223
pins: 1 IN, 2 GND, 3 OUT

## MKDSP 25/ 3-15,00
designator XP
Manufacturer: Logotype Phoenix; Value: 3 pole, 1000V, 125A; Order code: 48-459-62; Type: MKDSP 25/ 3-15,00; Supplier: Elfa; Package: 15mm; Price: 13.7
footprint Screw terminal (phoenix contact) 15mm - 3P (Screw terminal (phoenix contact) 15mm, 3 p)
pins: 1, 2, 3

## P5
designator XA?  (value not drawn)
Value: *; Package: *; Price: *; Publisher: *; Supplier: *
footprint P5
pins: 1, 2, 3, 4, 5, 6, 7, 8, 9, 10
text: Circuit; Contact

## P9
designator XP?  (value not drawn)
Value: *; Package: *; Price: *; Publisher: *; Supplier: *
footprint ANALOG_SLOT
pins: 1, 2, 3, 4, 5, 6, 7, 8, 9, 10, 11, 12, 13, 14, 15, 16, 17, 18, 19, 20
text: Circuit; Contact; GND

## PIC32MX795F512H
designator DD
controller; Manufacture: Microchip; Order code: 1778989; Value: PIC32MX795F512H; Package: 64 TQFP; Price: 10.7; Publisher: *; Supplier: farnell; Type: USB, Ethernet, CAN
footprint QFP64
pins: 1 ETXEN/PMD5/RE5, 2 ETXD0/PMD6/RE6, 3 ETXD1/PMD7/RE7, 4 SCK2/U6TX/U3RTS/PMA5/CN8/RG6, 5 SDA4/SDI2/U3RX/PMA4/CN9/RG7, 6 SCL4/SDO2/U3TX/PMA3/CN10/RG8, 7 MCLR, 8 SS2/U6RX/U3CTS/PMA2/CN11/RG9, 9 VSS, 10 VDD, 11 AN5/C1IN+/VBUSON/CN7/RB5, 12 AN4/C1IN-/CN6/RB4, 13 AN3/C2IN+/CN5/RB3, 14 AN2/C2IN-/CN4/RB2, 15 PGEC1/AN1/VREF-/CVREF-/CN3/RB1, 16 PGED1/AN0/VREF+/CVREF+/PMA6/CN2/RB0, 17 PGEC2/AN6/OCFA/RB6, 18 PGED2/AN7/RB7, 19 AVDD, 20 AVSS, 21 AN8/C2TX/SS4/U5RX/U2CTS/C1OUT/RB8, 22 AN9/C2OUT/PMA7/RB9, 23 TMS/AN10/CVREFOUT/PMA13/RB10, 24 TDO/AN11/PMA12/RB11, 25 VSS, 26 VDD, 27 TCK/AN12/PMA11/RB12, 28 TDI/AN13/PMA10/RB13, 29 AN14/C2RX/SCK4/U5TX/U2RTS/PMALH/PMA1/RB14, 30 AN15/EMDC/AEMDC/OCFB/PMALL/PMA0/CN12/RB15, 31 AC1TX/SDA5/SDI4/U2RX/PMA9/CN17/RF4, 32 AC1RX/SCL5/SDO4/U2TX/PMA8/CN18/RF5, 33 USBID/RF3, 34 VBUS, 35 VUSB, 36 D-/RG3, 37 D+/RG2, 38 VDD, 39 OSC1/CLKI/RC12, 40 OSC2/CLKO/RC15, 41 Vss, 42 RTCC/AERXD1/ETXD3/IC1/INT1/RD8, 43 AERXD0/ETXD2/SS3/U4RX/U1CTS/SDA1/IC2/INT2/RD9, 44 ECOL/AECRSDV/SCL1/IC3/PMCS2/PMA15/INT3/RD10, 45 ECRS/AEREFCLK/IC4/PMCS1/PMA14/INT4/RD11, 46 OC1/INT0/RD0, 47 SOSCI/CN1/RC13, 48 SOSCO/T1CK/CN0/RC14, 49 EMDIO/AEMDIO/SCK3/U4TX/U1RTS/OC2/RD1, 50 SDA3/SDI3/U1RX/OC3/RD2, 51 SCL3/SDO3/U1TX/OC4/RD3, 52 OC5/IC5/PMWR/CN13/RD4, 53 PMRD/CN14/RD5, 54 AETXEN/ETXERR/CN15/RD6, 55 ETXCLK/AERXERR/CN16/RD7, 56 VCAP/VCORE, 57 VDD, 58 C1RX/AETXD1/ERXD3/RF0, 59 C1TX/AETXD0/ERXD2/RF1, 60 ERXD1/PMD0/RE0, 61 ERXD0/PMD1/RE1, 62 ERXDV/ECRSDV/PMD2/RE2, 63 ERXCLK/EREFCLK/PMD3/RE3, 64 ERXERR/PMD4/RE4

## POWER_SLOT
designator XP?  (value not drawn)
POWER_SLOT; Value: *; Package: *; Price: *; Publisher: *; Supplier: *
footprint POWER_SLOT
pins: 1, 2, 3, 4
text: Circuit; Contact; +5V; +20V; GND

## POWER_SLOT1
designator XP?  (value not drawn)
POWER_SLOT1; Value: *; Package: *; Price: *; Publisher: *; Supplier: *
footprint POWER_SLOT1
pins: 1, 2, 3, 4
text: Circuit; Contact; A; B; C; 0

## POWER_SLOT2
designator XP?  (value not drawn)
POWER_SLOT2; Value: *; Package: *; Price: *; Publisher: *; Supplier: *
footprint POWER_SLOT2
pins: 1, 2, 3, 4
text: Contact; Circuit; LA; LB; LC; L0

## PROG_DSPIC
designator XP?  (value not drawn)
Value: *; Package: *; Price: *; Publisher: *; Supplier: *; Order code: *; Manufacturer: *
footprint RJ11_6P6C
pins: 1 Reset, 2 Vdd, 3 GND, 4 PGED, 5 PGEC, 6 NC

## Radiator
designator HS
Value: *; Type: *; Supplier: *; Order code: *; Price: *

## Res Varistor
designator R
Manufacturer: EPCOS; Value: 615V; Order code: 60-307-55; Type: Res Var; Supplier: Elfa; Price: 0,38; Package: 48X8X6 mm
footprint AXIAL-0.3 (Axial Device, Thru-Hole; 2 Leads; 0.3 in Pin Spacing)
pins: 1, 2

## RP12-11012SAR/P
designator *
footprint RP12
pins: 1 +Vin, 2 -Vin, 3 CTR, 4 +Vout, 5 Trim, 6 -Vout

## Single_power_terminal
designator *
Package: *; Price: *; Publisher: *; Supplier: *
pins: 1

## SN74LVC07ADR
designator DD
Value: 6 chanel; Order code: 9592660; Supplier: Farnell
footprint SOIC-14N
pins: 1 1in, 2 1out, 3 2in, 4 2out, 5 3in, 6 3out, 7 GND, 8 4out, 9 4in, 10 5out, 11 5in, 12 6out, 13 6in, 14 Vcc

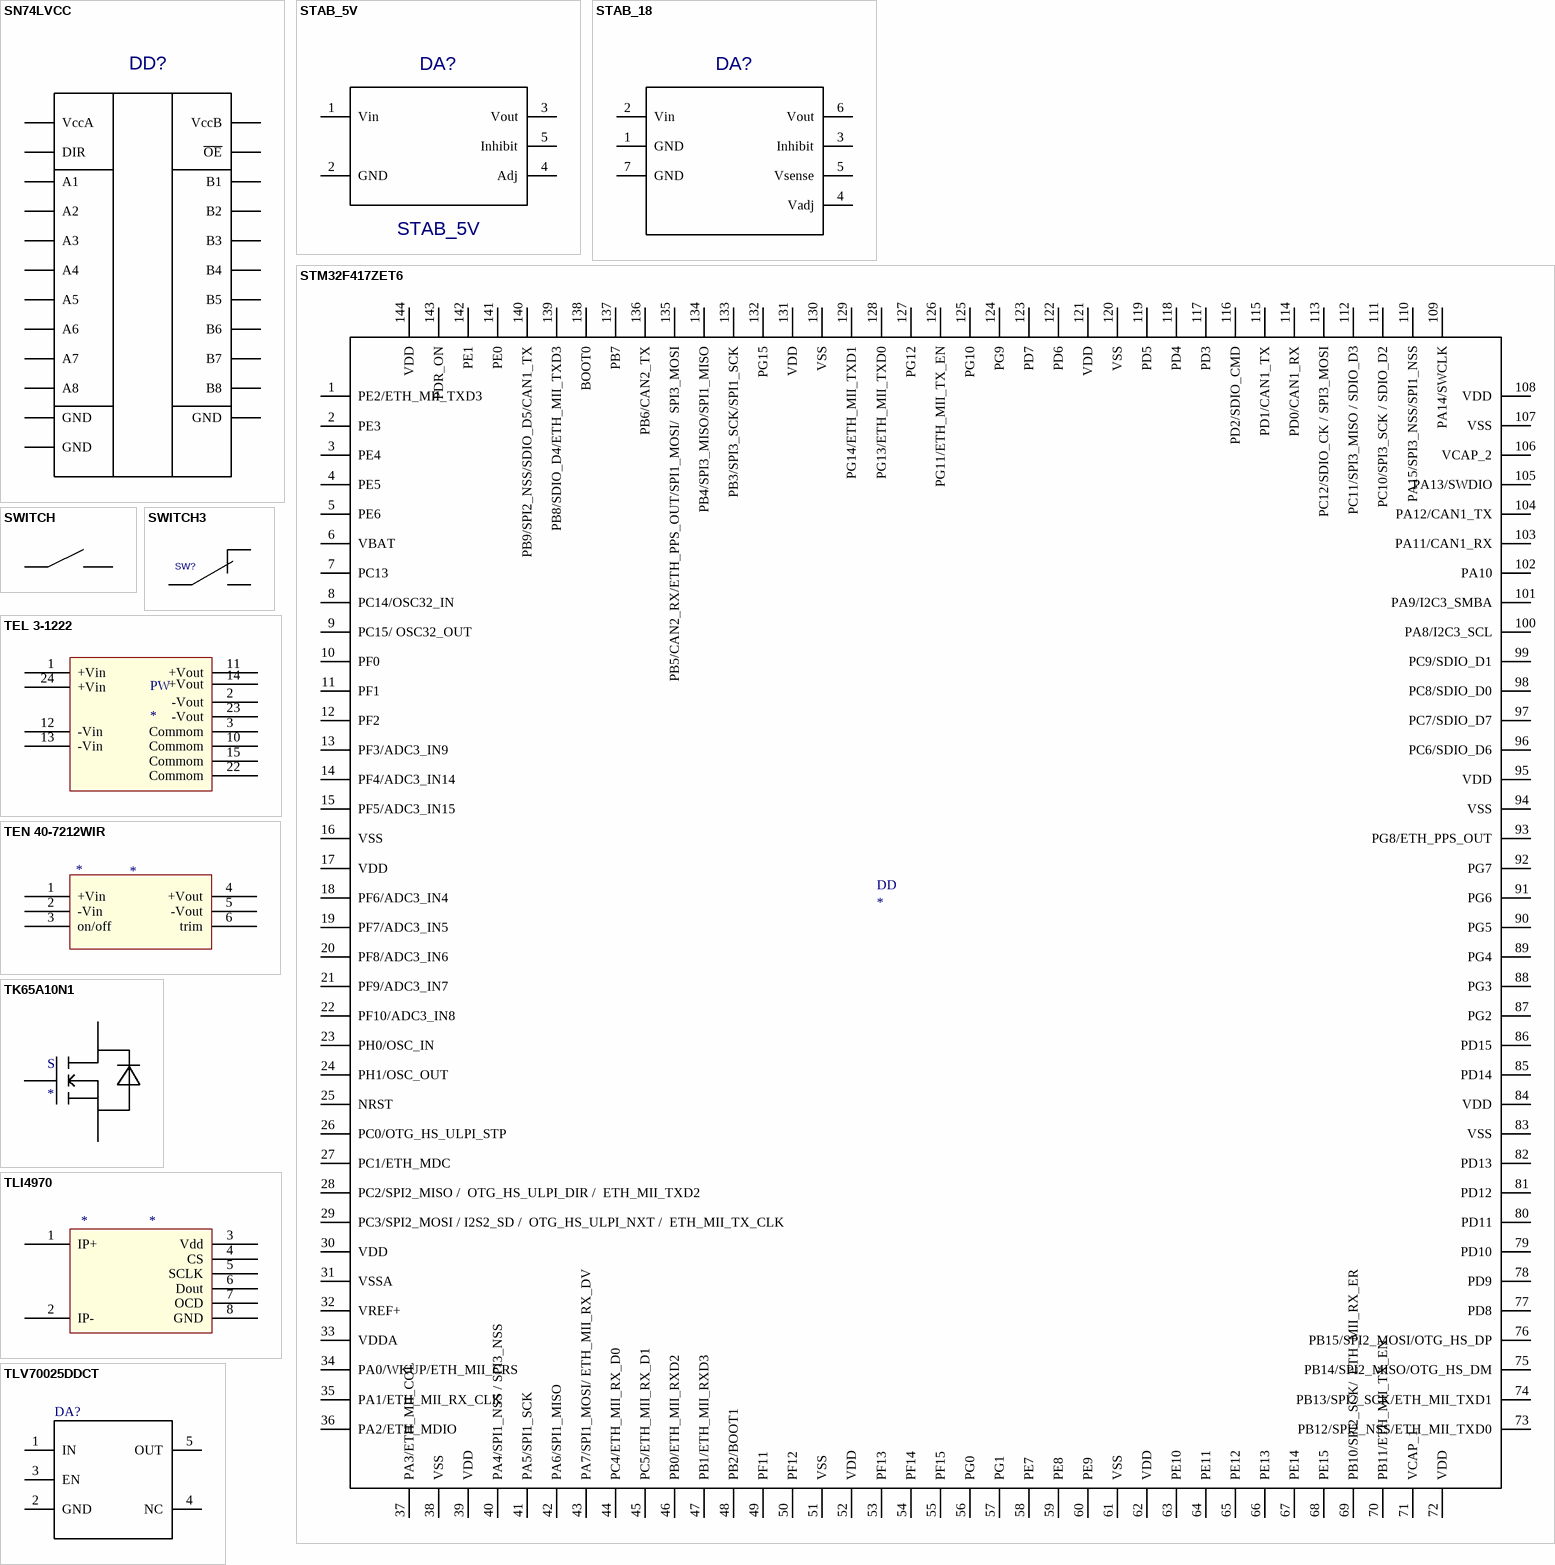
[diagram p6: symbols SN74LVCC to TLV70025DDCT]

## SN74LVCC
designator DD?  (value not drawn)
Manufacture: TEXAS INSTRUMENTS; Max Supply current: 1,5 mA; Order code: 1739703; Value: *; datasheet: http://www.ti.com/lit/ds/symlink/sn74lvcc4245a.pdf; Price: 0,67; Package: SOIC-24; Publisher: *; Supplier: Farnell; Type: SN74LVCC4245ADW
footprint SOIC_24
pins: 1 VccA, 2 DIR, 3 A1, 4 A2, 5 A3, 6 A4, 7 A5, 8 A6, 9 A7, 10 A8, 11 GND, 12 GND, 13 GND, 14 B8, 15 B7, 16 B6, 17 B5, 18 B4, 19 B3, 20 B2, 21 B1, 22 ~{OE}, 23 hidden, 24 VccB

## STAB_5V
designator DA?
Value: *; Package: *; Price: *; Publisher: *; Supplier: *
footprint STAB_5V
pins: 1 Vin, 2 GND, 3 Vout, 4 Adj, 5 Inhibit

## STAB_18
designator DA?  (value not drawn)
Value: *; Package: *; Price: *; Publisher: *; Supplier: *
footprint STAB_18V
pins: 1 GND, 2 Vin, 3 Inhibit, 4 Vadj, 5 Vsense, 6 Vout, 7 GND

## STM32F417ZET6
designator DD
Manufacturer: ST; Value: ARM Cortex-M4; Order code: 2333308; Type: STM32F417ZET6; Price: 10,65; Supplier: Farnel; Package: LQFP-144
footprint LQFP-144
pins: 1 PE2/ETH_MII_TXD3, 2 PE3, 3 PE4, 4 PE5, 5 PE6, 6 VBAT, 7 PC13, 8 PC14/OSC32_IN, 9 PC15/ OSC32_OUT, 10 PF0, 11 PF1, 12 PF2, 13 PF3/ADC3_IN9, 14 PF4/ADC3_IN14, 15 PF5/ADC3_IN15, 16 VSS, 17 VDD, 18 PF6/ADC3_IN4, 19 PF7/ADC3_IN5, 20 PF8/ADC3_IN6, 21 PF9/ADC3_IN7, 22 PF10/ADC3_IN8, 23 PH0/OSC_IN, 24 PH1/OSC_OUT, 25 NRST, 26 PC0/OTG_HS_ULPI_STP, 27 PC1/ETH_MDC, 28 PC2/SPI2_MISO /  OTG_HS_ULPI_DIR /  ETH_MII_TXD2, 29 PC3/SPI2_MOSI / I2S2_SD /  OTG_HS_ULPI_NXT /  ETH_MII_TX_CLK, 30 VDD, 31 VSSA, 32 VREF+, 33 VDDA, 34 PA0/WKUP/ETH_MII_CRS, 35 PA1/ETH_MII_RX_CLK, 36 PA2/ETH_MDIO, 37 PA3/ETH_MII_COL, 38 VSS, 39 VDD, 40 PA4/SPI1_NSS / SPI3_NSS, 41 PA5/SPI1_SCK, 42 PA6/SPI1_MISO, 43 PA7/SPI1_MOSI/ ETH_MII_RX_DV, 44 PC4/ETH_MII_RX_D0, 45 PC5/ETH_MII_RX_D1, 46 PB0/ETH_MII_RXD2, 47 PB1/ETH_MII_RXD3, 48 PB2/BOOT1, 49 PF11, 50 PF12, 51 VSS, 52 VDD, 53 PF13, 54 PF14, 55 PF15, 56 PG0, 57 PG1, 58 PE7, 59 PE8, 60 PE9, 61 VSS, 62 VDD, 63 PE10, 64 PE11, 65 PE12, 66 PE13, 67 PE14, 68 PE15, 69 PB10/SPI2_SCK/  ETH_MII_RX_ER , 70 PB11/ETH_MII_TX_EN, 71 VCAP_1, 72 VDD, 73 PB12/SPI2_NSS/ETH_MII_TXD0, 74 PB13/SPI2_SCK/ETH_MII_TXD1, 75 PB14/SPI2_MISO/OTG_HS_DM, 76 PB15/SPI2_MOSI/OTG_HS_DP, 77 PD8, 78 PD9, 79 PD10, 80 PD11, 81 PD12, 82 PD13, 83 VSS, 84 VDD, 85 PD14, 86 PD15, 87 PG2, 88 PG3, 89 PG4, 90 PG5, 91 PG6, 92 PG7, 93 PG8/ETH_PPS_OUT, 94 VSS, 95 VDD, 96 PC6/SDIO_D6, 97 PC7/SDIO_D7, 98 PC8/SDIO_D0, 99 PC9/SDIO_D1, 100 PA8/I2C3_SCL, 101 PA9/I2C3_SMBA, 102 PA10, 103 PA11/CAN1_RX, 104 PA12/CAN1_TX, 105 PA13/SWDIO, 106 VCAP_2, 107 VSS, 108 VDD, 109 PA14/SWCLK, 110 PA15/SPI3_NSS/SPI1_NSS, 111 PC10/SPI3_SCK / SDIO_D2, 112 PC11/SPI3_MISO / SDIO_D3, 113 PC12/SDIO_CK / SPI3_MOSI, 114 PD0/CAN1_RX, 115 PD1/CAN1_TX, 116 PD2/SDIO_CMD, 117 PD3, 118 PD4, 119 PD5, 120 VSS, 121 VDD, 122 PD6, 123 PD7, 124 PG9, 125 PG10, 126 PG11/ETH_MII_TX_EN, 127 PG12, 128 PG13/ETH_MII_TXD0, 129 PG14/ETH_MII_TXD1, 130 VSS, 131 VDD, 132 PG15, 133 PB3/SPI3_SCK/SPI1_SCK, 134 PB4/SPI3_MISO/SPI1_MISO, 135 PB5/CAN2_RX/ETH_PPS_OUT/SPI1_MOSI/  SPI3_MOSI, 136 PB6/CAN2_TX, 137 PB7, 138 BOOT0, 139 PB8/SDIO_D4/ETH_MII_TXD3, 140 PB9/SPI2_NSS/SDIO_D5/CAN1_TX, 141 PE0, 142 PE1, 143 PDR_ON, 144 VDD

## SWITCH
designator SW?  (value not drawn)
Value: *; Package: *; Price: *; Publisher: *; Supplier: *
pins: 1, 2

## SWITCH3
designator SW?  (value not drawn)
Manufacture: EAO; Order code: 3536547; Value: *; datasheet: https://www1.elfa.se/data1/wwwroot/assets/datasheets/03536521.pdf; Price: 1,59; Supplier: Elfa; Package: 3x2,54; Publisher: *; Type: Jumper
footprint 3_HOLES
pins: 1, 2, 3

## TEL 3-1222
designator PW
Manufacturer: Traco power; Value: 3W, +-12V; Order code: 69-593-65; Type: TEL 3-1222; Package: DIL24; Supplier: Elfa; Price: 19.4
footprint Traco power DILL24
pins: 1 +Vin, 2 -Vout, 3 Commom, 10 Commom, 11 +Vout, 12 -Vin, 13 -Vin, 14 +Vout, 15 Commom, 22 Commom, 23 -Vout, 24 +Vin

## TEN 40-7212WIR
designator *
footprint TEN 40WIR
pins: 1 +Vin, 2 -Vin, 3 on/off, 4 +Vout, 5 -Vout, 6 trim

## TK65A10N1
designator S
Order code: TK65A10N1,S4X; Type: MOSFET; Value: *; Supplier: Mouser; Price: 2.53; Package: TO-220
footprint TO-220
pins: 1 G, 2 D, 3 S

## TLI4970
designator *
footprint TLI4970
pins: 1 IP+, 2 IP-, 3 Vdd, 4 CS, 5 SCLK, 6 Dout, 7 OCD, 8 GND

## TLV70025DDCT
designator DA?  (value not drawn)
In 2.5-5.5V, Out 2.5V 0.2A; Manufacture: TEXAS INSTRUMENTS; Order code: 1815749RL; datasheet: http://www.farnell.com/datasheets/1633908.pdf; Supplier: Farnell; Price: 0,75; Package: SOT23-5; Publisher: *; Type: TLV70025DDCT; Value: In 2.5-5.5V, Out 2.5V 0.2A
footprint SOT23_5
pins: 1 IN, 2 GND, 3 EN, 4 NC, 5 OUT

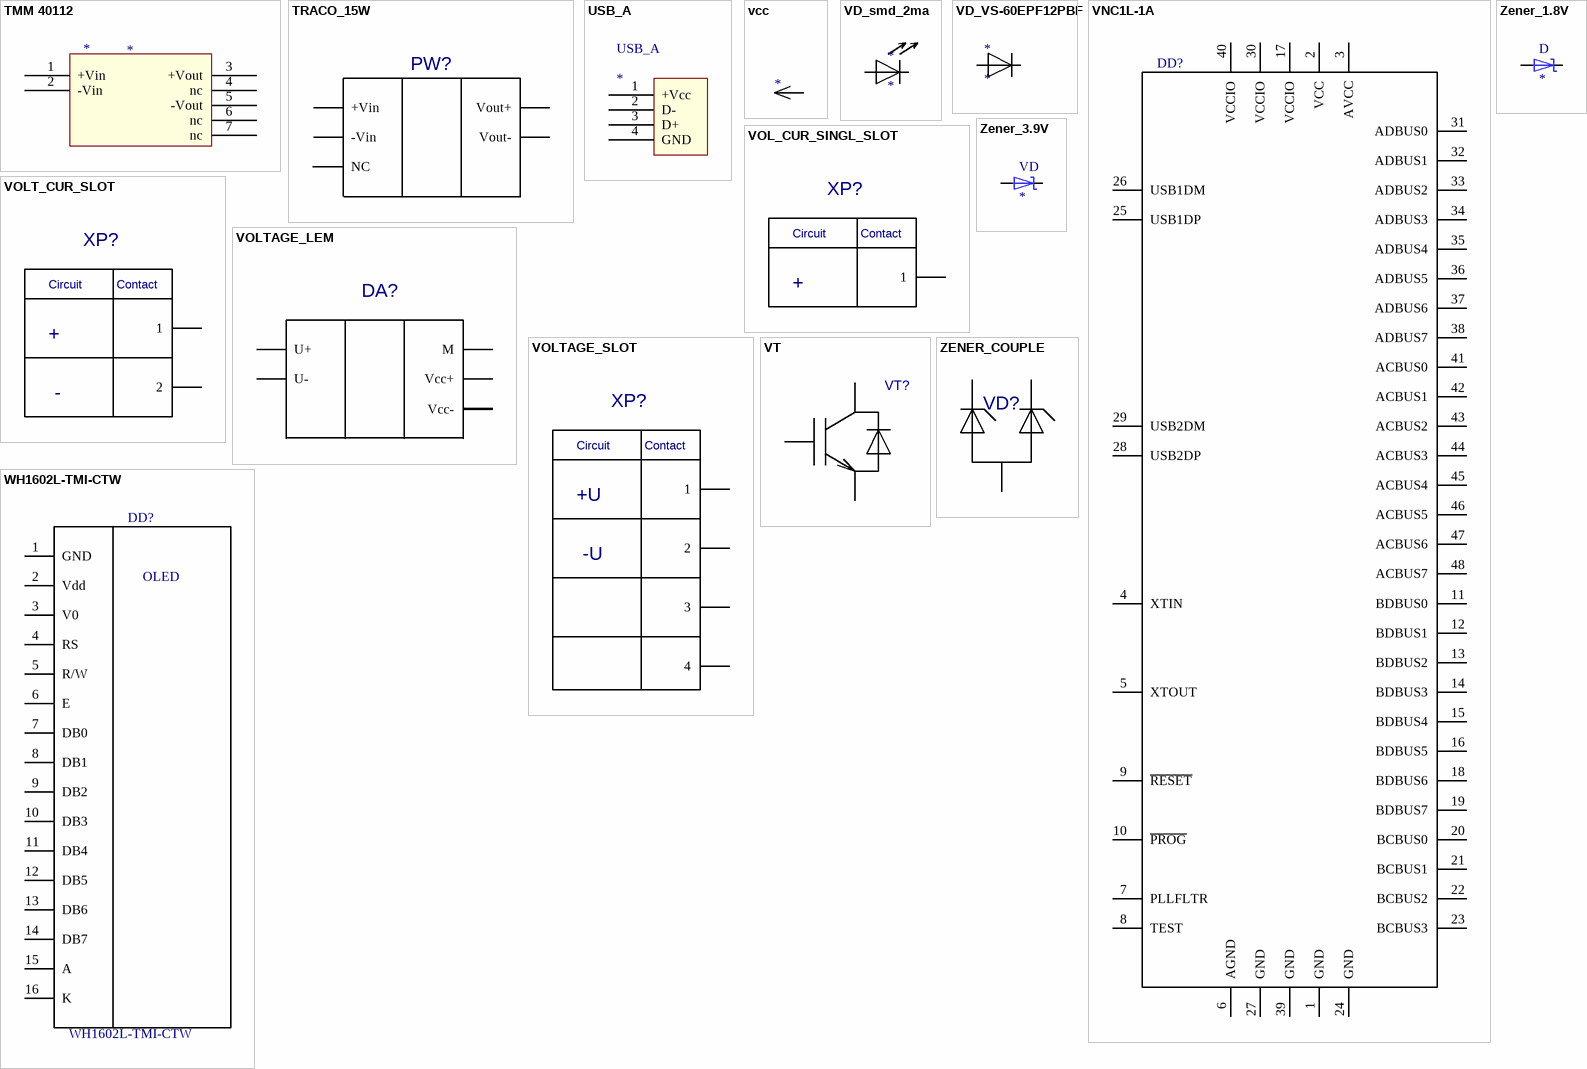
[diagram p7: symbols TMM 40112 to ZENER_COUPLE]

## TMM 40112
designator *
footprint TMM 40
pins: 1 +Vin, 2 -Vin, 3 +Vout, 4 nc, 5 -Vout, 6 nc, 7 nc

## TRACO_15W
designator PW?  (value not drawn)
Value: 5 VDC; Order code: 6910749; datasheet: https://www1.elfa.se/data1/wwwroot/assets/datasheets/ygTEL15_Data_E.pdf; Price: 44,5; Supplier: https://www.elfa.se/elfa3~ee_ru/elfa/init.do?item=69-107-49&toc=19201&q=TEL+15-2411; Package: *; Publisher: *
footprint TRACO_15W
pins: 1 +Vin, 2 -Vin, 3 Vout+, 4 NC, 5 Vout-

## USB_A
designator USB_A
footprint USB_A_vertical
pins: 1 +Vcc, 2 D-, 3 D+, 4 GND

## vcc
designator PWR?  (value not drawn)
Price: *; Value: *

## VD_smd_2ma
designator *
order code: 17525016; Value: *; Price: *; Supplier: Elfa
footprint SMD_3MM
pins: 1, 2

## VD_VS-60EPF12PBF
designator *
Package: *; Price: *; Publisher: *; Supplier: *
pins: 1, 2

## VNC1L-1A
designator DD?  (value not drawn)
USB-õîñò; Order code: 7320663; Max Supply current: 25 mA; datasheet: https://www1.elfa.se/data1/wwwroot/assets/datasheets/07320663.pdf; Supplier: https://www.elfa.se/elfa3~ee_ru/elfa/init.do?item=73-206-63&toc=19647&q=usb; Price: 12,4; Publisher: *
footprint LQFP-48
pins: 1 GND, 2 VCC, 3 AVCC, 4 XTIN, 5 XTOUT, 6 AGND, 7 PLLFLTR, 8 TEST, 9 ~{RESET}, 10 ~{PROG}, 11 BDBUS0, 12 BDBUS1, 13 BDBUS2, 14 BDBUS3, 15 BDBUS4, 16 BDBUS5, 17 VCCIO, 18 BDBUS6, 19 BDBUS7, 20 BCBUS0, 21 BCBUS1, 22 BCBUS2, 23 BCBUS3, 24 GND, 25 USB1DP, 26 USB1DM, 27 GND, 28 USB2DP, 29 USB2DM, 30 VCCIO, 31 ADBUS0, 32 ADBUS1, 33 ADBUS2, 34 ADBUS3, 35 ADBUS4, 36 ADBUS5, 37 ADBUS6, 38 ADBUS7, 39 GND, 40 VCCIO, 41 ACBUS0, 42 ACBUS1, 43 ACBUS2, 44 ACBUS3, 45 ACBUS4, 46 ACBUS5, 47 ACBUS6, 48 ACBUS7

## VOL_CUR_SINGL_SLOT
designator XP?  (value not drawn)
Value: *; Package: *; Price: *; Publisher: *; Supplier: *
footprint VOL_CUR_SINGL_SLOT
pins: 1
text: Circuit; Contact; +

## VOLT_CUR_SLOT
designator XP?  (value not drawn)
VOLT_CUR_SLOT; Value: *; Price: *; Publisher: *; Supplier: *
footprint VOLT_CUR-SLOT
pins: 1, 2
text: Circuit; Contact; +; -

## VOLTAGE_LEM
designator DA?  (value not drawn)
Value: *; Price: *; Publisher: *; Supplier: *
footprint VOLTAGE_LEM
pins: 1 U+, 2 U-, 3 M, 4 Vcc+, 5 Vcc-

## VOLTAGE_SLOT
designator XP?  (value not drawn)
Value: *; Price: *; Publisher: *; Supplier: *
footprint VOLTAGE_SLOT
pins: 1, 2, 3, 4
text: Circuit; Contact; +U; -U

## VT
designator VT?  (value not drawn)
VT; Value: *; Package: *; Price: *; Publisher: *; Supplier: *
footprint VT
pins: 1 C, 2 E, 3 G

## WH1602L-TMI-CTW
designator DD?
LCD; Supplier: http://www.kosmodrom.com.ua/el.php?name=WH1602L-TMI-CTW; Price: 8,75; datasheet: http://www.kosmodrom.com.ua/pdf/WH1602L.pdf; Order code: *; Package: *; Publisher: *
footprint WH1602_LCD
pins: 1 GND, 2 Vdd, 3 V0, 4 RS, 5 R/W, 6 E, 7 DB0, 8 DB1, 9 DB2, 10 DB3, 11 DB4, 12 DB5, 13 DB6, 14 DB7, 15 A, 16 K
text: OLED

## Zener_1.8V
designator D
Zener diode; Value: 1.8V; Order code: 1459115; Type: 0.5W; Supplier: Farnell; Price: 0.172; Package: SOD-123
footprint SOD123
pins: 1, 2

## Zener_3.9V
designator VD
PDZ3.9B; Value: 3.9V, 0.4W; Order code: 1757857; Type: zener diode; Supplier: Farnel; Package: SOD323; Price: 0.267
footprint SOD323F
pins: 1, 2

## ZENER_COUPLE
designator VD?  (value not drawn)
Manufacture: ON SEMICONDUCTOR; Order code: 1880534; Type: SM05T1G; Value: 5,1V; Package: SOT23; Price: 0,25; Publisher: *; Supplier: Farnell
footprint SOT32
pins: 1, 2, 3